# Altium integrated library Lattice ORCA Series 2.IntLib: 202 symbols (part 11 of 22)
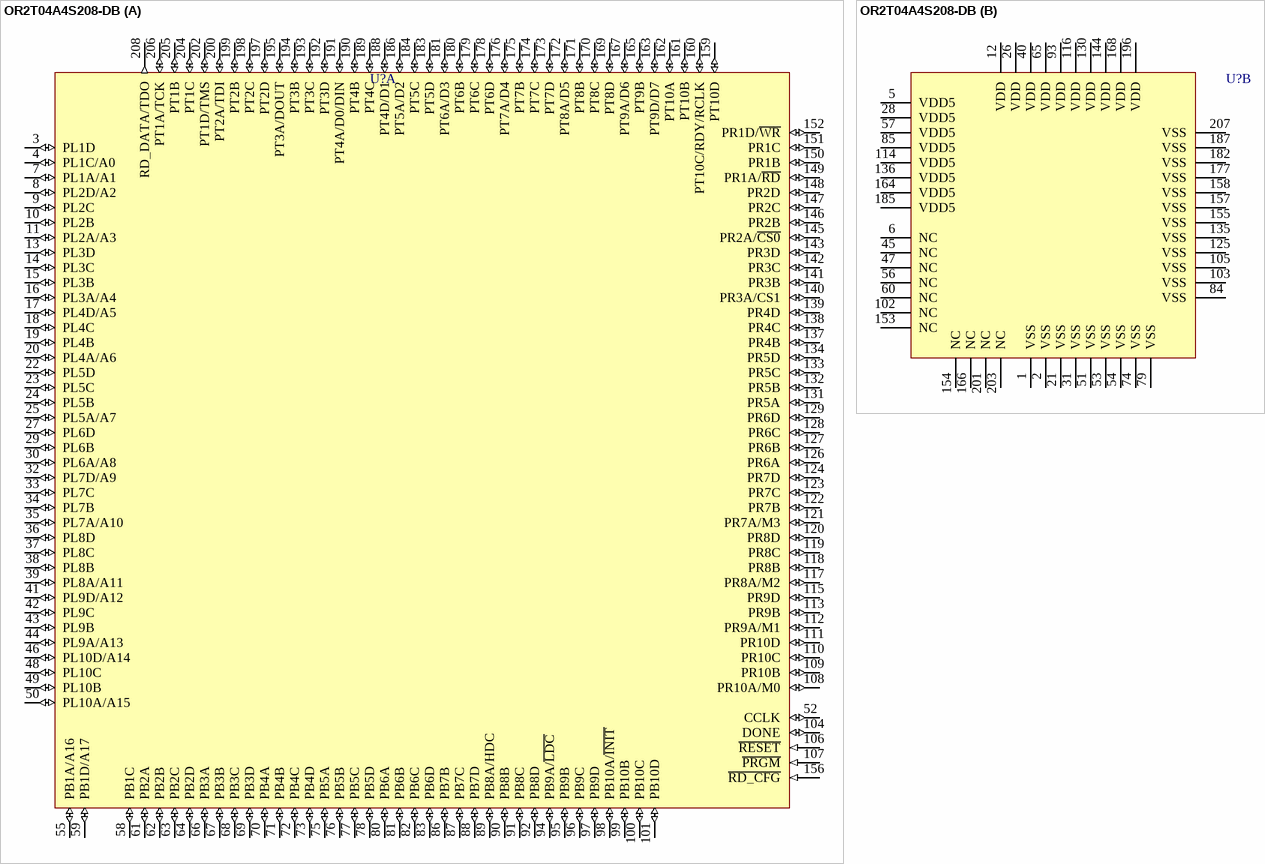
[diagram p202: symbol OR2T04A4S208-DB]

## OR2T04A4S208-DB
designator U?
ORCA Series 2C FPGA: 3.3 V, Commercial Grade, 160 User I/Os.; Published: 21-May-2003; LatestRevisionDate: 13-Apr-2006; LatestRevisionNote: IPC-7351 Footprint Added.; DatasheetVersion: Jan-2003; PackageVersion: pkg_32, Aug-2005; PackageReference: PQFP208; Publisher: Altium Limited; PackageDescription: 208-Pin Plastic Quad Flat Pack (PQFP208); Code_JEDEC: MO-143-FAI; ComponentLink1Description: Manufacturer Link; ComponentLink1URL: http://www.latticesemi.com/products/fpga/orca/orca2/index.cfm; ComponentLink2Description: Datasheet; ComponentLink2URL: http://www.latticesemi.com/lit/docs/datasheets/fpga/ds99-094fpga.pdf; ComponentLink3Description: Lattice Login; ComponentLink3URL: http://www.latticesemi.com/account/login.cfm
footprint PQFP208_N (Shrink QFP, 208-Leads, Body 28x28mm, Pitch 0.5mm, IPC Medium Density)
footprint PQFP208_L (Shrink QFP, 208-Leads, Body 28x28mm, Pitch 0.5mm, IPC High Density)
footprint PQFP208_M (Shrink QFP, 208-Leads, Body 28x28mm, Pitch 0.5mm, IPC Low Density)
3D model OR2T04A-PQFP208 (208-Pin Plastic Quad Flat Pack (PQFP208))
part A pins: 3 PL1D (io), 4 PL1C/A0 (io), 7 PL1A/A1 (io), 8 PL2D/A2 (io), 9 PL2C (io), 10 PL2B (io), 11 PL2A/A3 (io), 13 PL3D (io), 14 PL3C (io), 15 PL3B (io), 16 PL3A/A4 (io), 17 PL4D/A5 (io), 18 PL4C (io), 19 PL4B (io), 20 PL4A/A6 (io), 22 PL5D (io), 23 PL5C (io), 24 PL5B (io), 25 PL5A/A7 (io), 27 PL6D (io), 29 PL6B (io), 30 PL6A/A8 (io), 32 PL7D/A9 (io), 33 PL7C (io), 34 PL7B (io), 35 PL7A/A10 (io), 36 PL8D (io), 37 PL8C (io), 38 PL8B (io), 39 PL8A/A11 (io), 41 PL9D/A12 (io), 42 PL9C (io), 43 PL9B (io), 44 PL9A/A13 (io), 46 PL10D/A14 (io), 48 PL10C (io), 49 PL10B (io), 50 PL10A/A15 (io), 52 CCLK (io), 55 PB1A/A16 (io), 58 PB1C (io), 59 PB1D/A17 (io), 61 PB2A (io), 62 PB2B (io), 63 PB2C (io), 64 PB2D (io), 66 PB3A (io), 67 PB3B (io), 68 PB3C (io), 69 PB3D (io), 70 PB4A (io), 71 PB4B (io), 72 PB4C (io), 73 PB4D (io), 75 PB5A (io), 76 PB5B (io), 77 PB5C (io), 78 PB5D (io), 80 PB6A (io), 81 PB6B (io), 82 PB6C (io), 83 PB6D (io), 86 PB7B (io), 87 PB7C (io), 88 PB7D (io), 89 PB8A/HDC (io), 90 PB8B (io), 91 PB8C (io), 92 PB8D (io), 94 PB9A/~{LDC} (io), 95 PB9B (io), 96 PB9C (io), 97 PB9D (io), 98 PB10A/~{INIT} (io), 99 PB10B (io), 100 PB10C (io), 101 PB10D (io), 104 DONE (io), 106 ~{RESET} (in), 107 ~{PRGM} (in), 108 PR10A/M0 (io), 109 PR10B (io), 110 PR10C (io), 111 PR10D (io), 112 PR9A/M1 (io), 113 PR9B (io), 115 PR9D (io), 117 PR8A/M2 (io), 118 PR8B (io), 119 PR8C (io), 120 PR8D (io), 121 PR7A/M3 (io), 122 PR7B (io), 123 PR7C (io), 124 PR7D (io), 126 PR6A (io), 127 PR6B (io), 128 PR6C (io), 129 PR6D (io), 131 PR5A (io), 132 PR5B (io), 133 PR5C (io), 134 PR5D (io), 137 PR4B (io), 138 PR4C (io), 139 PR4D (io), 140 PR3A/CS1 (io), 141 PR3B (io), 142 PR3C (io), 143 PR3D (io), 145 PR2A/~{CS0} (io), 146 PR2B (io), 147 PR2C (io), 148 PR2D (io), 149 PR1A/~{RD} (io), 150 PR1B (io), 151 PR1C (io), 152 PR1D/~{WR} (io), 156 ~{RD_CFG} (in), 159 PT10D (io), 160 PT10C/RDY/RCLK (io), 161 PT10B (io), 162 PT10A (io), 163 PT9D/D7 (io), 165 PT9B (io), 167 PT9A/D6 (io), 169 PT8D (io), 170 PT8C (io), 171 PT8B (io), 172 PT8A/D5 (io), 173 PT7D (io), 174 PT7C (io), 175 PT7B (io), 176 PT7A/D4 (io), 178 PT6D (io), 179 PT6C (io), 180 PT6B (io), 181 PT6A/D3 (io), 183 PT5D (io), 184 PT5C (io), 186 PT5A/D2 (io), 188 PT4D/D1 (io), 189 PT4C (io), 190 PT4B (io), 191 PT4A/D0/DIN (io), 192 PT3D (io), 193 PT3C (io), 194 PT3B (io), 195 PT3A/DOUT (io), 197 PT2D (io), 198 PT2C (io), 199 PT2B (io), 200 PT2A/TDI (io), 202 PT1D/TMS (io), 204 PT1C (io), 205 PT1B (io), 206 PT1A/TCK (io), 208 RD_DATA/TDO (out)
part B pins: 1 VSS (power), 2 VSS (power), 5 VDD5 (power), 6 NC, 12 VDD (power), 21 VSS (power), 26 VDD (power), 28 VDD5 (power), 31 VSS (power), 40 VDD (power), 45 NC, 47 NC, 51 VSS (power), 53 VSS (power), 54 VSS (power), 56 NC, 57 VDD5 (power), 60 NC, 65 VDD (power), 74 VSS (power), 79 VSS (power), 84 VSS (power), 85 VDD5 (power), 93 VDD (power), 102 NC, 103 VSS (power), 105 VSS (power), 114 VDD5 (power), 116 VDD (power), 125 VSS (power), 130 VDD (power), 135 VSS (power), 136 VDD5 (power), 144 VDD (power), 153 NC, 154 NC, 155 VSS (power), 157 VSS (power), 158 VSS (power), 164 VDD5 (power), 166 NC, 168 VDD (power), 177 VSS (power), 182 VSS (power), 185 VDD5 (power), 187 VSS (power), 196 VDD (power), 201 NC, 203 NC, 207 VSS (power)

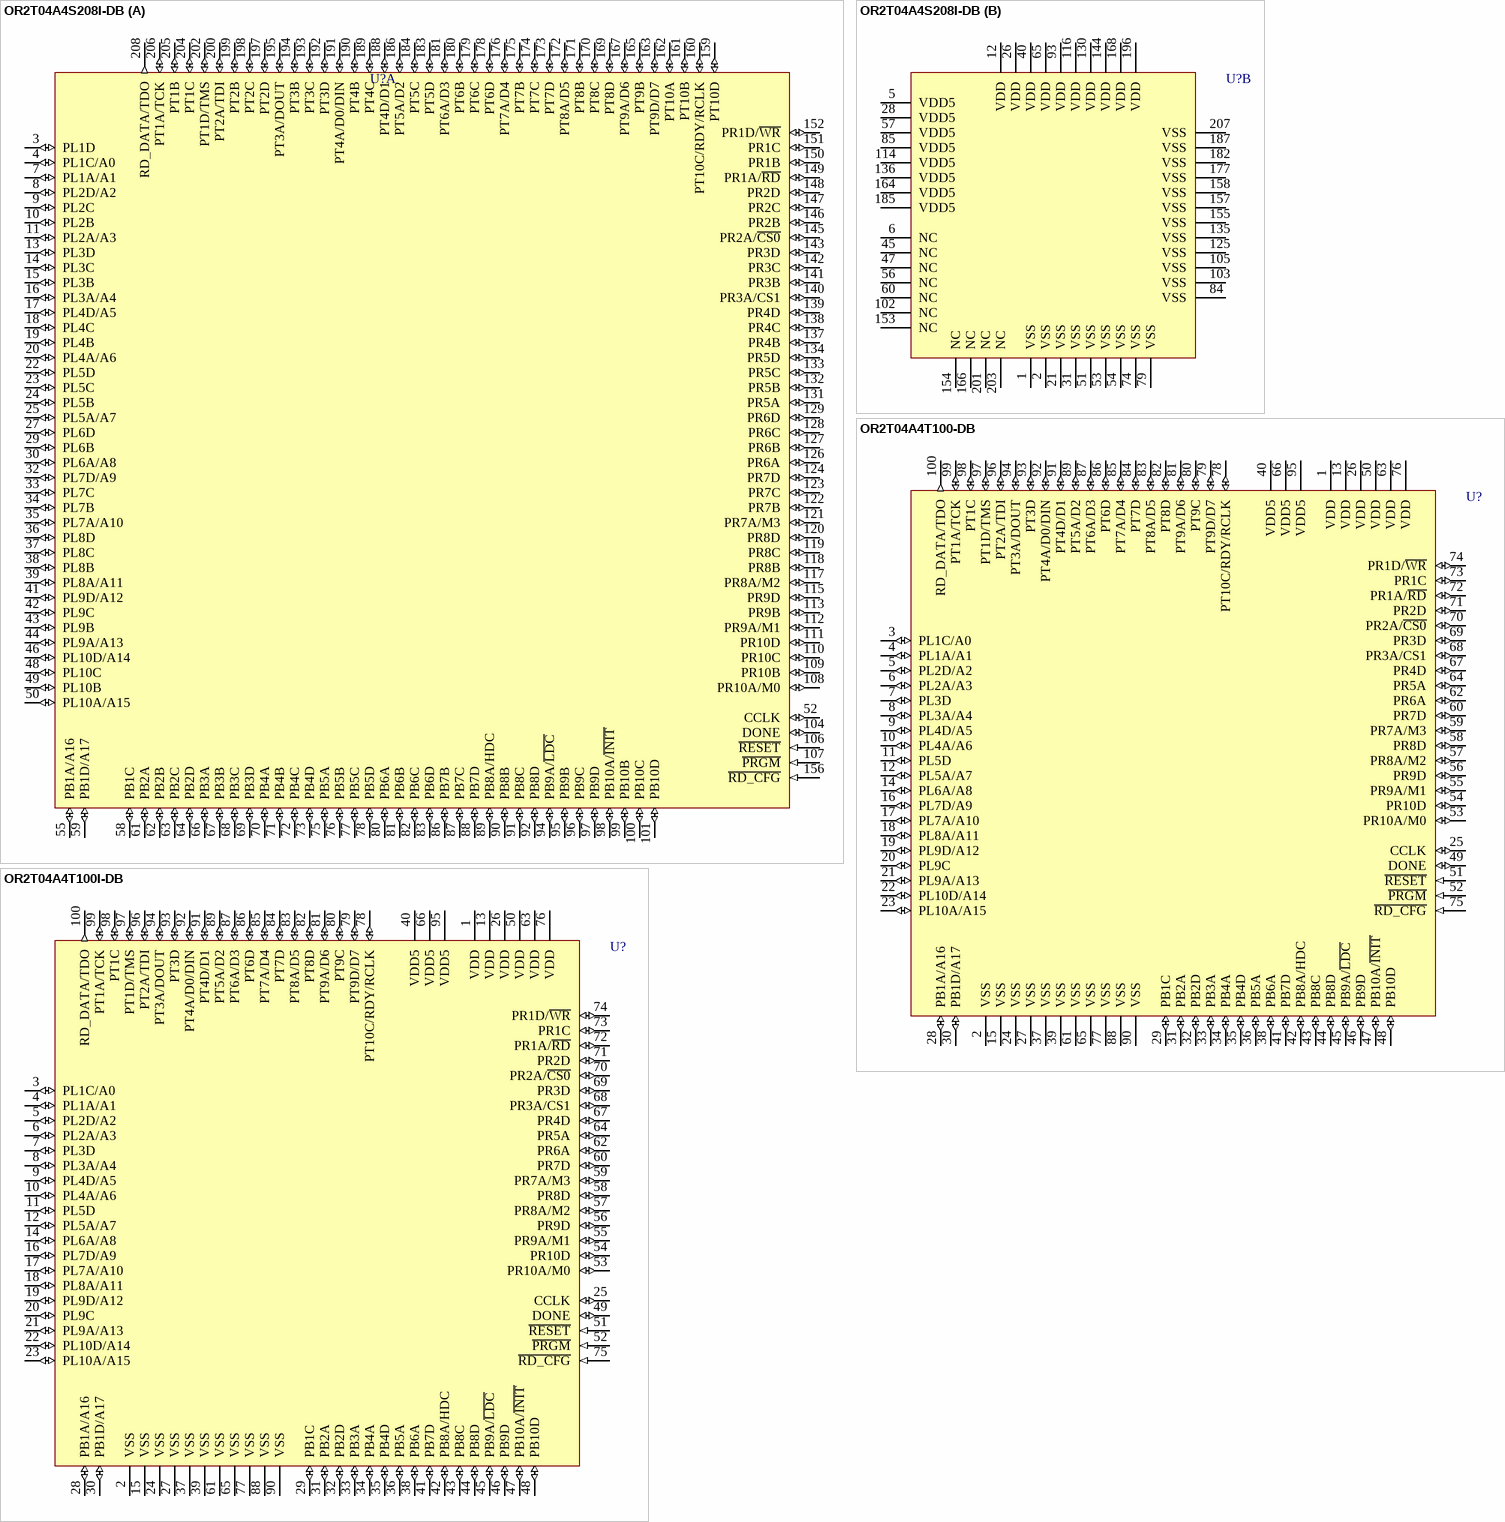
[diagram p83: symbols OR2T04A4S208I-DB to OR2T04A4T100I-DB]

## OR2T04A4S208I-DB
designator U?
ORCA Series 2C FPGA: 3.3 V, Industrial Grade, 160 User I/Os.; Published: 21-May-2003; LatestRevisionDate: 13-Apr-2006; LatestRevisionNote: IPC-7351 Footprint Added.; DatasheetVersion: Jan-2003; PackageVersion: pkg_32, Aug-2005; PackageReference: PQFP208; Publisher: Altium Limited; PackageDescription: 208-Pin Plastic Quad Flat Pack (PQFP208); Code_JEDEC: MO-143-FAI; ComponentLink1Description: Manufacturer Link; ComponentLink1URL: http://www.latticesemi.com/products/fpga/orca/orca2/index.cfm; ComponentLink2Description: Datasheet; ComponentLink2URL: http://www.latticesemi.com/lit/docs/datasheets/fpga/ds99-094fpga.pdf; ComponentLink3Description: Lattice Login; ComponentLink3URL: http://www.latticesemi.com/account/login.cfm
footprint PQFP208_N (Shrink QFP, 208-Leads, Body 28x28mm, Pitch 0.5mm, IPC Medium Density)
footprint PQFP208_L (Shrink QFP, 208-Leads, Body 28x28mm, Pitch 0.5mm, IPC High Density)
footprint PQFP208_M (Shrink QFP, 208-Leads, Body 28x28mm, Pitch 0.5mm, IPC Low Density)
3D model OR2T04A-PQFP208 (208-Pin Plastic Quad Flat Pack (PQFP208))
part A pins: 3 PL1D (io), 4 PL1C/A0 (io), 7 PL1A/A1 (io), 8 PL2D/A2 (io), 9 PL2C (io), 10 PL2B (io), 11 PL2A/A3 (io), 13 PL3D (io), 14 PL3C (io), 15 PL3B (io), 16 PL3A/A4 (io), 17 PL4D/A5 (io), 18 PL4C (io), 19 PL4B (io), 20 PL4A/A6 (io), 22 PL5D (io), 23 PL5C (io), 24 PL5B (io), 25 PL5A/A7 (io), 27 PL6D (io), 29 PL6B (io), 30 PL6A/A8 (io), 32 PL7D/A9 (io), 33 PL7C (io), 34 PL7B (io), 35 PL7A/A10 (io), 36 PL8D (io), 37 PL8C (io), 38 PL8B (io), 39 PL8A/A11 (io), 41 PL9D/A12 (io), 42 PL9C (io), 43 PL9B (io), 44 PL9A/A13 (io), 46 PL10D/A14 (io), 48 PL10C (io), 49 PL10B (io), 50 PL10A/A15 (io), 52 CCLK (io), 55 PB1A/A16 (io), 58 PB1C (io), 59 PB1D/A17 (io), 61 PB2A (io), 62 PB2B (io), 63 PB2C (io), 64 PB2D (io), 66 PB3A (io), 67 PB3B (io), 68 PB3C (io), 69 PB3D (io), 70 PB4A (io), 71 PB4B (io), 72 PB4C (io), 73 PB4D (io), 75 PB5A (io), 76 PB5B (io), 77 PB5C (io), 78 PB5D (io), 80 PB6A (io), 81 PB6B (io), 82 PB6C (io), 83 PB6D (io), 86 PB7B (io), 87 PB7C (io), 88 PB7D (io), 89 PB8A/HDC (io), 90 PB8B (io), 91 PB8C (io), 92 PB8D (io), 94 PB9A/~{LDC} (io), 95 PB9B (io), 96 PB9C (io), 97 PB9D (io), 98 PB10A/~{INIT} (io), 99 PB10B (io), 100 PB10C (io), 101 PB10D (io), 104 DONE (io), 106 ~{RESET} (in), 107 ~{PRGM} (in), 108 PR10A/M0 (io), 109 PR10B (io), 110 PR10C (io), 111 PR10D (io), 112 PR9A/M1 (io), 113 PR9B (io), 115 PR9D (io), 117 PR8A/M2 (io), 118 PR8B (io), 119 PR8C (io), 120 PR8D (io), 121 PR7A/M3 (io), 122 PR7B (io), 123 PR7C (io), 124 PR7D (io), 126 PR6A (io), 127 PR6B (io), 128 PR6C (io), 129 PR6D (io), 131 PR5A (io), 132 PR5B (io), 133 PR5C (io), 134 PR5D (io), 137 PR4B (io), 138 PR4C (io), 139 PR4D (io), 140 PR3A/CS1 (io), 141 PR3B (io), 142 PR3C (io), 143 PR3D (io), 145 PR2A/~{CS0} (io), 146 PR2B (io), 147 PR2C (io), 148 PR2D (io), 149 PR1A/~{RD} (io), 150 PR1B (io), 151 PR1C (io), 152 PR1D/~{WR} (io), 156 ~{RD_CFG} (in), 159 PT10D (io), 160 PT10C/RDY/RCLK (io), 161 PT10B (io), 162 PT10A (io), 163 PT9D/D7 (io), 165 PT9B (io), 167 PT9A/D6 (io), 169 PT8D (io), 170 PT8C (io), 171 PT8B (io), 172 PT8A/D5 (io), 173 PT7D (io), 174 PT7C (io), 175 PT7B (io), 176 PT7A/D4 (io), 178 PT6D (io), 179 PT6C (io), 180 PT6B (io), 181 PT6A/D3 (io), 183 PT5D (io), 184 PT5C (io), 186 PT5A/D2 (io), 188 PT4D/D1 (io), 189 PT4C (io), 190 PT4B (io), 191 PT4A/D0/DIN (io), 192 PT3D (io), 193 PT3C (io), 194 PT3B (io), 195 PT3A/DOUT (io), 197 PT2D (io), 198 PT2C (io), 199 PT2B (io), 200 PT2A/TDI (io), 202 PT1D/TMS (io), 204 PT1C (io), 205 PT1B (io), 206 PT1A/TCK (io), 208 RD_DATA/TDO (out)
part B pins: 1 VSS (power), 2 VSS (power), 5 VDD5 (power), 6 NC, 12 VDD (power), 21 VSS (power), 26 VDD (power), 28 VDD5 (power), 31 VSS (power), 40 VDD (power), 45 NC, 47 NC, 51 VSS (power), 53 VSS (power), 54 VSS (power), 56 NC, 57 VDD5 (power), 60 NC, 65 VDD (power), 74 VSS (power), 79 VSS (power), 84 VSS (power), 85 VDD5 (power), 93 VDD (power), 102 NC, 103 VSS (power), 105 VSS (power), 114 VDD5 (power), 116 VDD (power), 125 VSS (power), 130 VDD (power), 135 VSS (power), 136 VDD5 (power), 144 VDD (power), 153 NC, 154 NC, 155 VSS (power), 157 VSS (power), 158 VSS (power), 164 VDD5 (power), 166 NC, 168 VDD (power), 177 VSS (power), 182 VSS (power), 185 VDD5 (power), 187 VSS (power), 196 VDD (power), 201 NC, 203 NC, 207 VSS (power)

## OR2T04A4T100-DB
designator U?
ORCA Series 2C FPGA: 3.3 V, Commercial Grade, 160 User I/Os.; Published: 21-May-2003; LatestRevisionDate: 13-Apr-2006; LatestRevisionNote: IPC-7351 Footprint Added.; DatasheetVersion: Jan-2003; PackageVersion: pkg_32, Aug-2005; PackageReference: TQFP100; Publisher: Altium Limited; PackageDescription: 100-Pin Thin Quad Flat Pack (TQFP100); Code_JEDEC: MS-026-BED; ComponentLink1Description: Manufacturer Link; ComponentLink1URL: http://www.latticesemi.com/products/fpga/orca/orca2/index.cfm; ComponentLink2Description: Datasheet; ComponentLink2URL: http://www.latticesemi.com/lit/docs/datasheets/fpga/ds99-094fpga.pdf; ComponentLink3Description: Lattice Login; ComponentLink3URL: http://www.latticesemi.com/account/login.cfm
footprint TQFP100_N (Thin QFP, 100-Leads, Body 14x14mm, Pitch 0.5mm, IPC Medium Density)
footprint TQFP100_L (Thin QFP, 100-Leads, Body 14x14mm, Pitch 0.5mm, IPC High Density)
footprint TQFP100_M (Thin QFP, 100-Leads, Body 14x14mm, Pitch 0.5mm, IPC Low Density)
3D model OR2T04A-TQFP100 (100-Pin Thin Quad Flat Pack (TQFP100))
pins: 1 VDD (power), 2 VSS (power), 3 PL1C/A0 (io), 4 PL1A/A1 (io), 5 PL2D/A2 (io), 6 PL2A/A3 (io), 7 PL3D (io), 8 PL3A/A4 (io), 9 PL4D/A5 (io), 10 PL4A/A6 (io), 11 PL5D (io), 12 PL5A/A7 (io), 13 VDD (power), 14 PL6A/A8 (io), 15 VSS (power), 16 PL7D/A9 (io), 17 PL7A/A10 (io), 18 PL8A/A11 (io), 19 PL9D/A12 (io), 20 PL9C (io), 21 PL9A/A13 (io), 22 PL10D/A14 (io), 23 PL10A/A15 (io), 24 VSS (power), 25 CCLK (io), 26 VDD (power), 27 VSS (power), 28 PB1A/A16 (io), 29 PB1C (io), 30 PB1D/A17 (io), 31 PB2A (io), 32 PB2D (io), 33 PB3A (io), 34 PB4A (io), 35 PB4D (io), 36 PB5A (io), 37 VSS (power), 38 PB6A (io), 39 VSS (power), 40 VDD5 (power), 41 PB7D (io), 42 PB8A/HDC (io), 43 PB8C (io), 44 PB8D (io), 45 PB9A/~{LDC} (io), 46 PB9D (io), 47 PB10A/~{INIT} (io), 48 PB10D (io), 49 DONE (io), 50 VDD (power), 51 ~{RESET} (in), 52 ~{PRGM} (in), 53 PR10A/M0 (io), 54 PR10D (io), 55 PR9A/M1 (io), 56 PR9D (io), 57 PR8A/M2 (io), 58 PR8D (io), 59 PR7A/M3 (io), 60 PR7D (io), 61 VSS (power), 62 PR6A (io), 63 VDD (power), 64 PR5A (io), 65 VSS (power), 66 VDD5 (power), 67 PR4D (io), 68 PR3A/CS1 (io), 69 PR3D (io), 70 PR2A/~{CS0} (io), 71 PR2D (io), 72 PR1A/~{RD} (io), 73 PR1C (io), 74 PR1D/~{WR} (io), 75 ~{RD_CFG} (in), 76 VDD (power), 77 VSS (power), 78 PT10C/RDY/RCLK (io), 79 PT9D/D7 (io), 80 PT9C (io), 81 PT9A/D6 (io), 82 PT8D (io), 83 PT8A/D5 (io), 84 PT7D (io), 85 PT7A/D4 (io), 86 PT6D (io), 87 PT6A/D3 (io), 88 VSS (power), 89 PT5A/D2 (io), 90 VSS (power), 91 PT4D/D1 (io), 92 PT4A/D0/DIN (io), 93 PT3D (io), 94 PT3A/DOUT (io), 95 VDD5 (power), 96 PT2A/TDI (io), 97 PT1D/TMS (io), 98 PT1C (io), 99 PT1A/TCK (io), 100 RD_DATA/TDO (out)

## OR2T04A4T100I-DB
designator U?
ORCA Series 2C FPGA: 3.3 V, Industrial Grade, 160 User I/Os.; Published: 21-May-2003; LatestRevisionDate: 13-Apr-2006; LatestRevisionNote: IPC-7351 Footprint Added.; DatasheetVersion: Jan-2003; PackageVersion: pkg_32, Aug-2005; PackageReference: TQFP100; Publisher: Altium Limited; PackageDescription: 100-Pin Thin Quad Flat Pack (TQFP100); Code_JEDEC: MS-026-BED; ComponentLink1Description: Manufacturer Link; ComponentLink1URL: http://www.latticesemi.com/products/fpga/orca/orca2/index.cfm; ComponentLink2Description: Datasheet; ComponentLink2URL: http://www.latticesemi.com/lit/docs/datasheets/fpga/ds99-094fpga.pdf; ComponentLink3Description: Lattice Login; ComponentLink3URL: http://www.latticesemi.com/account/login.cfm
footprint TQFP100_N (Thin QFP, 100-Leads, Body 14x14mm, Pitch 0.5mm, IPC Medium Density)
footprint TQFP100_L (Thin QFP, 100-Leads, Body 14x14mm, Pitch 0.5mm, IPC High Density)
footprint TQFP100_M (Thin QFP, 100-Leads, Body 14x14mm, Pitch 0.5mm, IPC Low Density)
3D model OR2T04A-TQFP100 (100-Pin Thin Quad Flat Pack (TQFP100))
pins: 1 VDD (power), 2 VSS (power), 3 PL1C/A0 (io), 4 PL1A/A1 (io), 5 PL2D/A2 (io), 6 PL2A/A3 (io), 7 PL3D (io), 8 PL3A/A4 (io), 9 PL4D/A5 (io), 10 PL4A/A6 (io), 11 PL5D (io), 12 PL5A/A7 (io), 13 VDD (power), 14 PL6A/A8 (io), 15 VSS (power), 16 PL7D/A9 (io), 17 PL7A/A10 (io), 18 PL8A/A11 (io), 19 PL9D/A12 (io), 20 PL9C (io), 21 PL9A/A13 (io), 22 PL10D/A14 (io), 23 PL10A/A15 (io), 24 VSS (power), 25 CCLK (io), 26 VDD (power), 27 VSS (power), 28 PB1A/A16 (io), 29 PB1C (io), 30 PB1D/A17 (io), 31 PB2A (io), 32 PB2D (io), 33 PB3A (io), 34 PB4A (io), 35 PB4D (io), 36 PB5A (io), 37 VSS (power), 38 PB6A (io), 39 VSS (power), 40 VDD5 (power), 41 PB7D (io), 42 PB8A/HDC (io), 43 PB8C (io), 44 PB8D (io), 45 PB9A/~{LDC} (io), 46 PB9D (io), 47 PB10A/~{INIT} (io), 48 PB10D (io), 49 DONE (io), 50 VDD (power), 51 ~{RESET} (in), 52 ~{PRGM} (in), 53 PR10A/M0 (io), 54 PR10D (io), 55 PR9A/M1 (io), 56 PR9D (io), 57 PR8A/M2 (io), 58 PR8D (io), 59 PR7A/M3 (io), 60 PR7D (io), 61 VSS (power), 62 PR6A (io), 63 VDD (power), 64 PR5A (io), 65 VSS (power), 66 VDD5 (power), 67 PR4D (io), 68 PR3A/CS1 (io), 69 PR3D (io), 70 PR2A/~{CS0} (io), 71 PR2D (io), 72 PR1A/~{RD} (io), 73 PR1C (io), 74 PR1D/~{WR} (io), 75 ~{RD_CFG} (in), 76 VDD (power), 77 VSS (power), 78 PT10C/RDY/RCLK (io), 79 PT9D/D7 (io), 80 PT9C (io), 81 PT9A/D6 (io), 82 PT8D (io), 83 PT8A/D5 (io), 84 PT7D (io), 85 PT7A/D4 (io), 86 PT6D (io), 87 PT6A/D3 (io), 88 VSS (power), 89 PT5A/D2 (io), 90 VSS (power), 91 PT4D/D1 (io), 92 PT4A/D0/DIN (io), 93 PT3D (io), 94 PT3A/DOUT (io), 95 VDD5 (power), 96 PT2A/TDI (io), 97 PT1D/TMS (io), 98 PT1C (io), 99 PT1A/TCK (io), 100 RD_DATA/TDO (out)

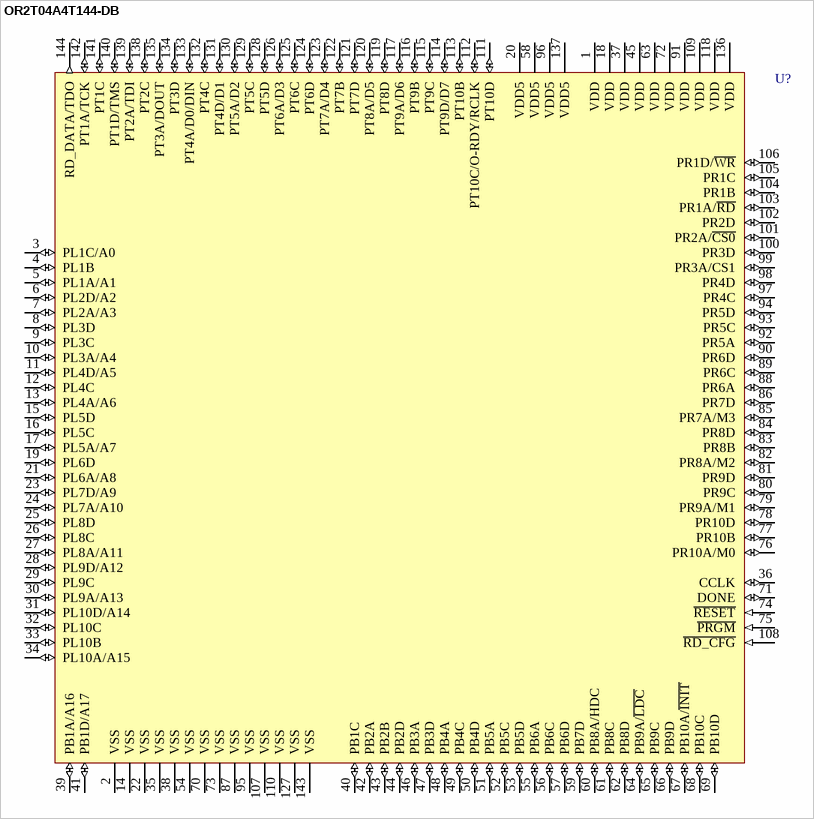
[diagram p84: symbol OR2T04A4T144-DB]

## OR2T04A4T144-DB
designator U?
ORCA Series 2C FPGA: 3.3 V, Commercial Grade, 160 User I/Os.; Published: 21-May-2003; LatestRevisionDate: 13-Apr-2006; LatestRevisionNote: IPC-7351 Footprint Added.; DatasheetVersion: Jan-2003; PackageVersion: pkg_32, Aug-2005; PackageReference: TQFP144; Publisher: Altium Limited; PackageDescription: 144-Pin Thin Quad Flat Pack (TQFP144); Code_JEDEC: MS-026-BFB; ComponentLink1Description: Manufacturer Link; ComponentLink1URL: http://www.latticesemi.com/products/fpga/orca/orca2/index.cfm; ComponentLink2Description: Datasheet; ComponentLink2URL: http://www.latticesemi.com/lit/docs/datasheets/fpga/ds99-094fpga.pdf; ComponentLink3Description: Lattice Login; ComponentLink3URL: http://www.latticesemi.com/account/login.cfm
footprint TQFP144_N (Thin QFP, 144-Leads, Body 20x20mm, Pitch 0.5mm, IPC Medium Density)
footprint TQFP144_L (Thin QFP, 144-Leads, Body 20x20mm, Pitch 0.5mm, IPC High Density)
footprint TQFP144_M (Thin QFP, 144-Leads, Body 20x20mm, Pitch 0.5mm, IPC Low Density)
3D model OR2T04A-TQFP144 (144-Pin Thin Quad Flat Pack (TQFP144))
pins: 1 VDD (power), 2 VSS (power), 3 PL1C/A0 (io), 4 PL1B (io), 5 PL1A/A1 (io), 6 PL2D/A2 (io), 7 PL2A/A3 (io), 8 PL3D (io), 9 PL3C (io), 10 PL3A/A4 (io), 11 PL4D/A5 (io), 12 PL4C (io), 13 PL4A/A6 (io), 14 VSS (power), 15 PL5D (io), 16 PL5C (io), 17 PL5A/A7 (io), 18 VDD (power), 19 PL6D (io), 20 VDD5 (power), 21 PL6A/A8 (io), 22 VSS (power), 23 PL7D/A9 (io), 24 PL7A/A10 (io), 25 PL8D (io), 26 PL8C (io), 27 PL8A/A11 (io), 28 PL9D/A12 (io), 29 PL9C (io), 30 PL9A/A13 (io), 31 PL10D/A14 (io), 32 PL10C (io), 33 PL10B (io), 34 PL10A/A15 (io), 35 VSS (power), 36 CCLK (io), 37 VDD (power), 38 VSS (power), 39 PB1A/A16 (io), 40 PB1C (io), 41 PB1D/A17 (io), 42 PB2A (io), 43 PB2B (io), 44 PB2D (io), 45 VDD (power), 46 PB3A (io), 47 PB3D (io), 48 PB4A (io), 49 PB4C (io), 50 PB4D (io), 51 PB5A (io), 52 PB5C (io), 53 PB5D (io), 54 VSS (power), 55 PB6A (io), 56 PB6C (io), 57 PB6D (io), 58 VDD5 (power), 59 PB7D (io), 60 PB8A/HDC (io), 61 PB8C (io), 62 PB8D (io), 63 VDD (power), 64 PB9A/~{LDC} (io), 65 PB9C (io), 66 PB9D (io), 67 PB10A/~{INIT} (io), 68 PB10C (io), 69 PB10D (io), 70 VSS (power), 71 DONE (io), 72 VDD (power), 73 VSS (power), 74 ~{RESET} (in), 75 ~{PRGM} (in), 76 PR10A/M0 (io), 77 PR10B (io), 78 PR10D (io), 79 PR9A/M1 (io), 80 PR9C (io), 81 PR9D (io), 82 PR8A/M2 (io), 83 PR8B (io), 84 PR8D (io), 85 PR7A/M3 (io), 86 PR7D (io), 87 VSS (power), 88 PR6A (io), 89 PR6C (io), 90 PR6D (io), 91 VDD (power), 92 PR5A (io), 93 PR5C (io), 94 PR5D (io), 95 VSS (power), 96 VDD5 (power), 97 PR4C (io), 98 PR4D (io), 99 PR3A/CS1 (io), 100 PR3D (io), 101 PR2A/~{CS0} (io), 102 PR2D (io), 103 PR1A/~{RD} (io), 104 PR1B (io), 105 PR1C (io), 106 PR1D/~{WR} (io), 107 VSS (power), 108 ~{RD_CFG} (in), 109 VDD (power), 110 VSS (power), 111 PT10D (io), 112 PT10C/O-RDY/RCLK (io), 113 PT10B (io), 114 PT9D/D7 (io), 115 PT9C (io), 116 PT9B (io), 117 PT9A/D6 (io), 118 VDD (power), 119 PT8D (io), 120 PT8A/D5 (io), 121 PT7D (io), 122 PT7B (io), 123 PT7A/D4 (io), 124 PT6D (io), 125 PT6C (io), 126 PT6A/D3 (io), 127 VSS (power), 128 PT5D (io), 129 PT5C (io), 130 PT5A/D2 (io), 131 PT4D/D1 (io), 132 PT4C (io), 133 PT4A/D0/DIN (io), 134 PT3D (io), 135 PT3A/DOUT (io), 136 VDD (power), 137 VDD5 (power), 138 PT2C (io), 139 PT2A/TDI (io), 140 PT1D/TMS (io), 141 PT1C (io), 142 PT1A/TCK (io), 143 VSS (power), 144 RD_DATA/TDO (out)

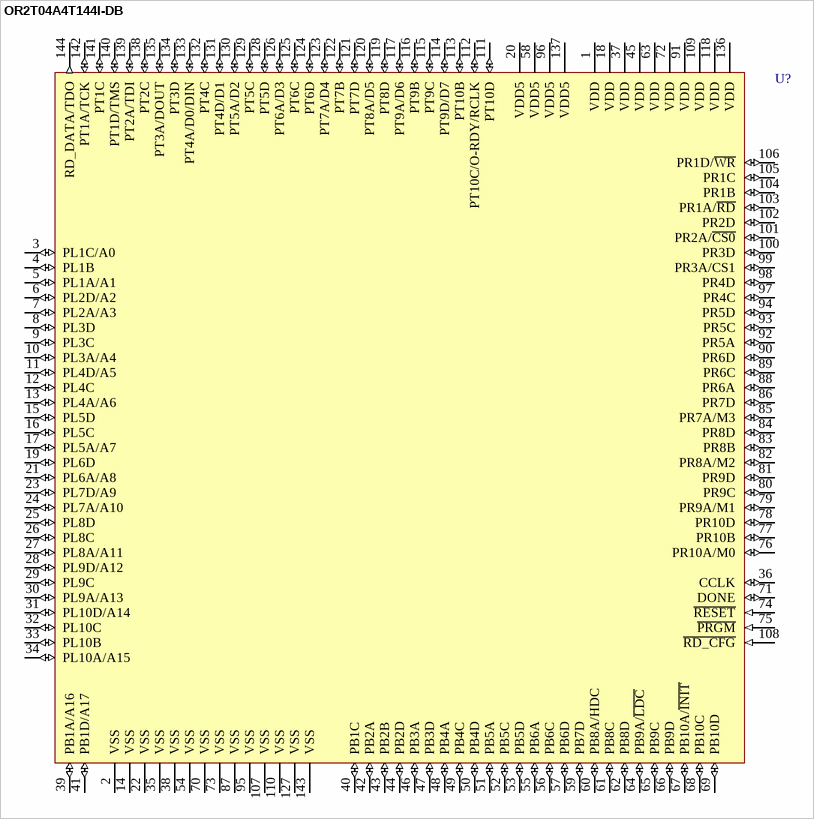
[diagram p85: symbol OR2T04A4T144I-DB]

## OR2T04A4T144I-DB
designator U?
ORCA Series 2C FPGA: 3.3 V, Industrial Grade, 160 User I/Os.; Published: 21-May-2003; LatestRevisionDate: 13-Apr-2006; LatestRevisionNote: IPC-7351 Footprint Added.; DatasheetVersion: Jan-2003; PackageVersion: pkg_32, Aug-2005; PackageReference: TQFP144; Publisher: Altium Limited; PackageDescription: 144-Pin Thin Quad Flat Pack (TQFP144); Code_JEDEC: MS-026-BFB; ComponentLink1Description: Manufacturer Link; ComponentLink1URL: http://www.latticesemi.com/products/fpga/orca/orca2/index.cfm; ComponentLink2Description: Datasheet; ComponentLink2URL: http://www.latticesemi.com/lit/docs/datasheets/fpga/ds99-094fpga.pdf; ComponentLink3Description: Lattice Login; ComponentLink3URL: http://www.latticesemi.com/account/login.cfm
footprint TQFP144_N (Thin QFP, 144-Leads, Body 20x20mm, Pitch 0.5mm, IPC Medium Density)
footprint TQFP144_L (Thin QFP, 144-Leads, Body 20x20mm, Pitch 0.5mm, IPC High Density)
footprint TQFP144_M (Thin QFP, 144-Leads, Body 20x20mm, Pitch 0.5mm, IPC Low Density)
3D model OR2T04A-TQFP144 (144-Pin Thin Quad Flat Pack (TQFP144))
pins: 1 VDD (power), 2 VSS (power), 3 PL1C/A0 (io), 4 PL1B (io), 5 PL1A/A1 (io), 6 PL2D/A2 (io), 7 PL2A/A3 (io), 8 PL3D (io), 9 PL3C (io), 10 PL3A/A4 (io), 11 PL4D/A5 (io), 12 PL4C (io), 13 PL4A/A6 (io), 14 VSS (power), 15 PL5D (io), 16 PL5C (io), 17 PL5A/A7 (io), 18 VDD (power), 19 PL6D (io), 20 VDD5 (power), 21 PL6A/A8 (io), 22 VSS (power), 23 PL7D/A9 (io), 24 PL7A/A10 (io), 25 PL8D (io), 26 PL8C (io), 27 PL8A/A11 (io), 28 PL9D/A12 (io), 29 PL9C (io), 30 PL9A/A13 (io), 31 PL10D/A14 (io), 32 PL10C (io), 33 PL10B (io), 34 PL10A/A15 (io), 35 VSS (power), 36 CCLK (io), 37 VDD (power), 38 VSS (power), 39 PB1A/A16 (io), 40 PB1C (io), 41 PB1D/A17 (io), 42 PB2A (io), 43 PB2B (io), 44 PB2D (io), 45 VDD (power), 46 PB3A (io), 47 PB3D (io), 48 PB4A (io), 49 PB4C (io), 50 PB4D (io), 51 PB5A (io), 52 PB5C (io), 53 PB5D (io), 54 VSS (power), 55 PB6A (io), 56 PB6C (io), 57 PB6D (io), 58 VDD5 (power), 59 PB7D (io), 60 PB8A/HDC (io), 61 PB8C (io), 62 PB8D (io), 63 VDD (power), 64 PB9A/~{LDC} (io), 65 PB9C (io), 66 PB9D (io), 67 PB10A/~{INIT} (io), 68 PB10C (io), 69 PB10D (io), 70 VSS (power), 71 DONE (io), 72 VDD (power), 73 VSS (power), 74 ~{RESET} (in), 75 ~{PRGM} (in), 76 PR10A/M0 (io), 77 PR10B (io), 78 PR10D (io), 79 PR9A/M1 (io), 80 PR9C (io), 81 PR9D (io), 82 PR8A/M2 (io), 83 PR8B (io), 84 PR8D (io), 85 PR7A/M3 (io), 86 PR7D (io), 87 VSS (power), 88 PR6A (io), 89 PR6C (io), 90 PR6D (io), 91 VDD (power), 92 PR5A (io), 93 PR5C (io), 94 PR5D (io), 95 VSS (power), 96 VDD5 (power), 97 PR4C (io), 98 PR4D (io), 99 PR3A/CS1 (io), 100 PR3D (io), 101 PR2A/~{CS0} (io), 102 PR2D (io), 103 PR1A/~{RD} (io), 104 PR1B (io), 105 PR1C (io), 106 PR1D/~{WR} (io), 107 VSS (power), 108 ~{RD_CFG} (in), 109 VDD (power), 110 VSS (power), 111 PT10D (io), 112 PT10C/O-RDY/RCLK (io), 113 PT10B (io), 114 PT9D/D7 (io), 115 PT9C (io), 116 PT9B (io), 117 PT9A/D6 (io), 118 VDD (power), 119 PT8D (io), 120 PT8A/D5 (io), 121 PT7D (io), 122 PT7B (io), 123 PT7A/D4 (io), 124 PT6D (io), 125 PT6C (io), 126 PT6A/D3 (io), 127 VSS (power), 128 PT5D (io), 129 PT5C (io), 130 PT5A/D2 (io), 131 PT4D/D1 (io), 132 PT4C (io), 133 PT4A/D0/DIN (io), 134 PT3D (io), 135 PT3A/DOUT (io), 136 VDD (power), 137 VDD5 (power), 138 PT2C (io), 139 PT2A/TDI (io), 140 PT1D/TMS (io), 141 PT1C (io), 142 PT1A/TCK (io), 143 VSS (power), 144 RD_DATA/TDO (out)

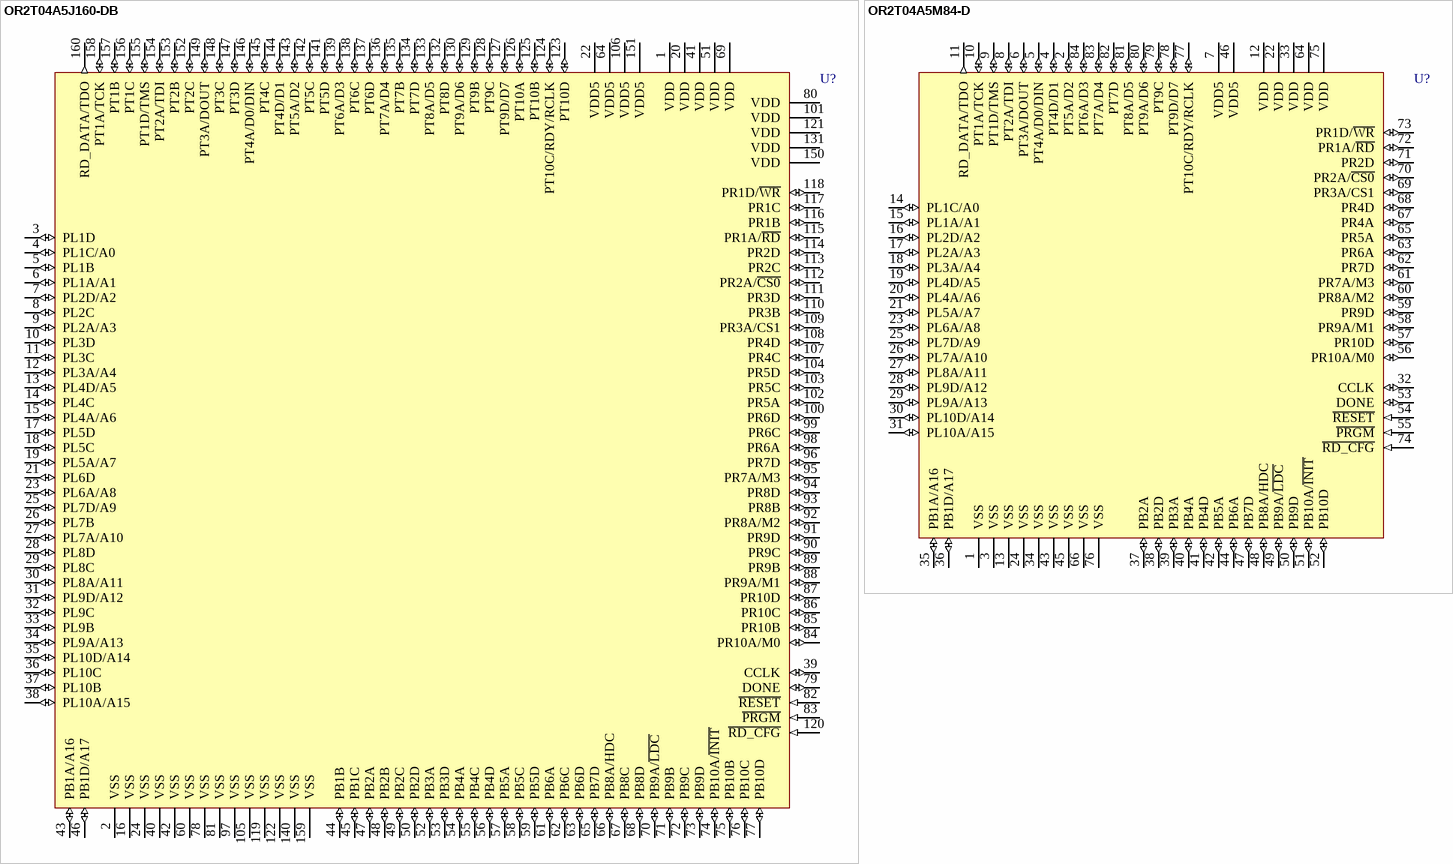
[diagram p86: symbols OR2T04A5J160-DB to OR2T04A5M84-D]

## OR2T04A5J160-DB
designator U?
ORCA Series 2C FPGA: 3.3 V, Commercial Grade, 160 User I/Os.; Published: 21-May-2003; LatestRevisionDate: 13-Apr-2006; LatestRevisionNote: IPC-7351 Footprint Added.; DatasheetVersion: Jan-2003; PackageVersion: pkg_32, Aug-2005; PackageReference: PQFP160; Publisher: Altium Limited; PackageDescription: 160-Pin Quad Flat Pack 0.65 mm Pitch; Code_IPC: QFP65P3120X3120-160; ComponentLink1Description: Manufacturer Link; ComponentLink1URL: http://www.latticesemi.com/products/fpga/orca/orca2/index.cfm; ComponentLink2Description: Datasheet; ComponentLink2URL: http://www.latticesemi.com/lit/docs/datasheets/fpga/ds99-094fpga.pdf; ComponentLink3Description: Lattice Login; ComponentLink3URL: http://www.latticesemi.com/account/login.cfm
footprint PQFP160_N (QFP, 160-Leads, Body 28 x 28mm, Pitch 0.65mm, IPC Medium Density)
footprint PQFP160_L (QFP, 160-Leads, Body 28 x 28mm, Pitch 0.65mm, IPC High Density)
footprint PQFP160_M (QFP, 160-Leads, Body 28 x 28mm, Pitch 0.65mm, IPC Low Density)
3D model OR2T04A-PQFP160 (160-Pin Quad Flat Pack 0.65 mm Pitch)
pins: 1 VDD (power), 2 VSS (power), 3 PL1D (io), 4 PL1C/A0 (io), 5 PL1B (io), 6 PL1A/A1 (io), 7 PL2D/A2 (io), 8 PL2C (io), 9 PL2A/A3 (io), 10 PL3D (io), 11 PL3C (io), 12 PL3A/A4 (io), 13 PL4D/A5 (io), 14 PL4C (io), 15 PL4A/A6 (io), 16 VSS (power), 17 PL5D (io), 18 PL5C (io), 19 PL5A/A7 (io), 20 VDD (power), 21 PL6D (io), 22 VDD5 (power), 23 PL6A/A8 (io), 24 VSS (power), 25 PL7D/A9 (io), 26 PL7B (io), 27 PL7A/A10 (io), 28 PL8D (io), 29 PL8C (io), 30 PL8A/A11 (io), 31 PL9D/A12 (io), 32 PL9C (io), 33 PL9B (io), 34 PL9A/A13 (io), 35 PL10D/A14 (io), 36 PL10C (io), 37 PL10B (io), 38 PL10A/A15 (io), 39 CCLK (io), 40 VSS (power), 41 VDD (power), 42 VSS (power), 43 PB1A/A16 (io), 44 PB1B (io), 45 PB1C (io), 46 PB1D/A17 (io), 47 PB2A (io), 48 PB2B (io), 49 PB2C (io), 50 PB2D (io), 51 VDD (power), 52 PB3A (io), 53 PB3D (io), 54 PB4A (io), 55 PB4C (io), 56 PB4D (io), 57 PB5A (io), 58 PB5C (io), 59 PB5D (io), 60 VSS (power), 61 PB6A (io), 62 PB6C (io), 63 PB6D (io), 64 VDD5 (power), 65 PB7D (io), 66 PB8A/HDC (io), 67 PB8C (io), 68 PB8D (io), 69 VDD (power), 70 PB9A/~{LDC} (io), 71 PB9B (io), 72 PB9C (io), 73 PB9D (io), 74 PB10A/~{INIT} (io), 75 PB10B (io), 76 PB10C (io), 77 PB10D (io), 78 VSS (power), 79 DONE (io), 80 VDD (power), 81 VSS (power), 82 ~{RESET} (in), 83 ~{PRGM} (in), 84 PR10A/M0 (io), 85 PR10B (io), 86 PR10C (io), 87 PR10D (io), 88 PR9A/M1 (io), 89 PR9B (io), 90 PR9C (io), 91 PR9D (io), 92 PR8A/M2 (io), 93 PR8B (io), 94 PR8D (io), 95 PR7A/M3 (io), 96 PR7D (io), 97 VSS (power), 98 PR6A (io), 99 PR6C (io), 100 PR6D (io), 101 VDD (power), 102 PR5A (io), 103 PR5C (io), 104 PR5D (io), 105 VSS (power), 106 VDD5 (power), 107 PR4C (io), 108 PR4D (io), 109 PR3A/CS1 (io), 110 PR3B (io), 111 PR3D (io), 112 PR2A/~{CS0} (io), 113 PR2C (io), 114 PR2D (io), 115 PR1A/~{RD} (io), 116 PR1B (io), 117 PR1C (io), 118 PR1D/~{WR} (io), 119 VSS (power), 120 ~{RD_CFG} (in), 121 VDD (power), 122 VSS (power), 123 PT10D (io), 124 PT10C/RDY/RCLK (io), 125 PT10B (io), 126 PT10A (io), 127 PT9D/D7 (io), 128 PT9C (io), 129 PT9B (io), 130 PT9A/D6 (io), 131 VDD (power), 132 PT8D (io), 133 PT8A/D5 (io), 134 PT7D (io), 135 PT7B (io), 136 PT7A/D4 (io), 137 PT6D (io), 138 PT6C (io), 139 PT6A/D3 (io), 140 VSS (power), 141 PT5D (io), 142 PT5C (io), 143 PT5A/D2 (io), 144 PT4D/D1 (io), 145 PT4C (io), 146 PT4A/D0/DIN (io), 147 PT3D (io), 148 PT3C (io), 149 PT3A/DOUT (io), 150 VDD (power), 151 VDD5 (power), 152 PT2C (io), 153 PT2B (io), 154 PT2A/TDI (io), 155 PT1D/TMS (io), 156 PT1C (io), 157 PT1B (io), 158 PT1A/TCK (io), 159 VSS (power), 160 RD_DATA/TDO (out)

## OR2T04A5M84-D
designator U?
ORCA Series 2C FPGA: 3.3 V, Commercial Grade, 160 User I/Os.; Published: 21-May-2003; LatestRevisionDate: 13-Apr-2006; LatestRevisionNote: IPC-7351 Footprint Added.; DatasheetVersion: Jan-2003; PackageVersion: pkg_32, Aug-2005; PackageReference: PLCC84; Publisher: Altium Limited; PackageDescription: 84-Pin Leaded Chip Carrier 1.27 mm Pitch; Code_IPC: PLCC-84; ComponentLink1Description: Manufacturer Link; ComponentLink1URL: http://www.latticesemi.com/products/fpga/orca/orca2/index.cfm; ComponentLink2Description: Datasheet; ComponentLink2URL: http://www.latticesemi.com/lit/docs/datasheets/fpga/ds99-094fpga.pdf; ComponentLink3Description: Lattice Login; ComponentLink3URL: http://www.latticesemi.com/account/login.cfm
footprint PLCC84_N (Leaded Chip Carrier, 84-Leads, Body 29.3x29.3mm, Pitch 1.27mm, IPC Medium Density)
footprint PLCC84_L (Leaded Chip Carrier, 84-Leads, Body 29.3x29.3mm, Pitch 1.27mm, IPC High Density)
footprint PLCC84_M (Leaded Chip Carrier, 84-Leads, Body 29.3x29.3mm, Pitch 1.27mm, IPC Low Density)
3D model OR2T04A-PLCC84 (84-Pin Leaded Chip Carrier 1.27 mm Pitch)
pins: 1 VSS (power), 2 PT5A/D2 (io), 3 VSS (power), 4 PT4D/D1 (io), 5 PT4A/D0/DIN (io), 6 PT3A/DOUT (io), 7 VDD5 (power), 8 PT2A/TDI (io), 9 PT1D/TMS (io), 10 PT1A/TCK (io), 11 RD_DATA/TDO (out), 12 VDD (power), 13 VSS (power), 14 PL1C/A0 (io), 15 PL1A/A1 (io), 16 PL2D/A2 (io), 17 PL2A/A3 (io), 18 PL3A/A4 (io), 19 PL4D/A5 (io), 20 PL4A/A6 (io), 21 PL5A/A7 (io), 22 VDD (power), 23 PL6A/A8 (io), 24 VSS (power), 25 PL7D/A9 (io), 26 PL7A/A10 (io), 27 PL8A/A11 (io), 28 PL9D/A12 (io), 29 PL9A/A13 (io), 30 PL10D/A14 (io), 31 PL10A/A15 (io), 32 CCLK (io), 33 VDD (power), 34 VSS (power), 35 PB1A/A16 (io), 36 PB1D/A17 (io), 37 PB2A (io), 38 PB2D (io), 39 PB3A (io), 40 PB4A (io), 41 PB4D (io), 42 PB5A (io), 43 VSS (power), 44 PB6A (io), 45 VSS (power), 46 VDD5 (power), 47 PB7D (io), 48 PB8A/HDC (io), 49 PB9A/~{LDC} (io), 50 PB9D (io), 51 PB10A/~{INIT} (io), 52 PB10D (io), 53 DONE (io), 54 ~{RESET} (in), 55 ~{PRGM} (in), 56 PR10A/M0 (io), 57 PR10D (io), 58 PR9A/M1 (io), 59 PR9D (io), 60 PR8A/M2 (io), 61 PR7A/M3 (io), 62 PR7D (io), 63 PR6A (io), 64 VDD (power), 65 PR5A (io), 66 VSS (power), 67 PR4A (io), 68 PR4D (io), 69 PR3A/CS1 (io), 70 PR2A/~{CS0} (io), 71 PR2D (io), 72 PR1A/~{RD} (io), 73 PR1D/~{WR} (io), 74 ~{RD_CFG} (in), 75 VDD (power), 76 VSS (power), 77 PT10C/RDY/RCLK (io), 78 PT9D/D7 (io), 79 PT9C (io), 80 PT9A/D6 (io), 81 PT8A/D5 (io), 82 PT7D (io), 83 PT7A/D4 (io), 84 PT6A/D3 (io)

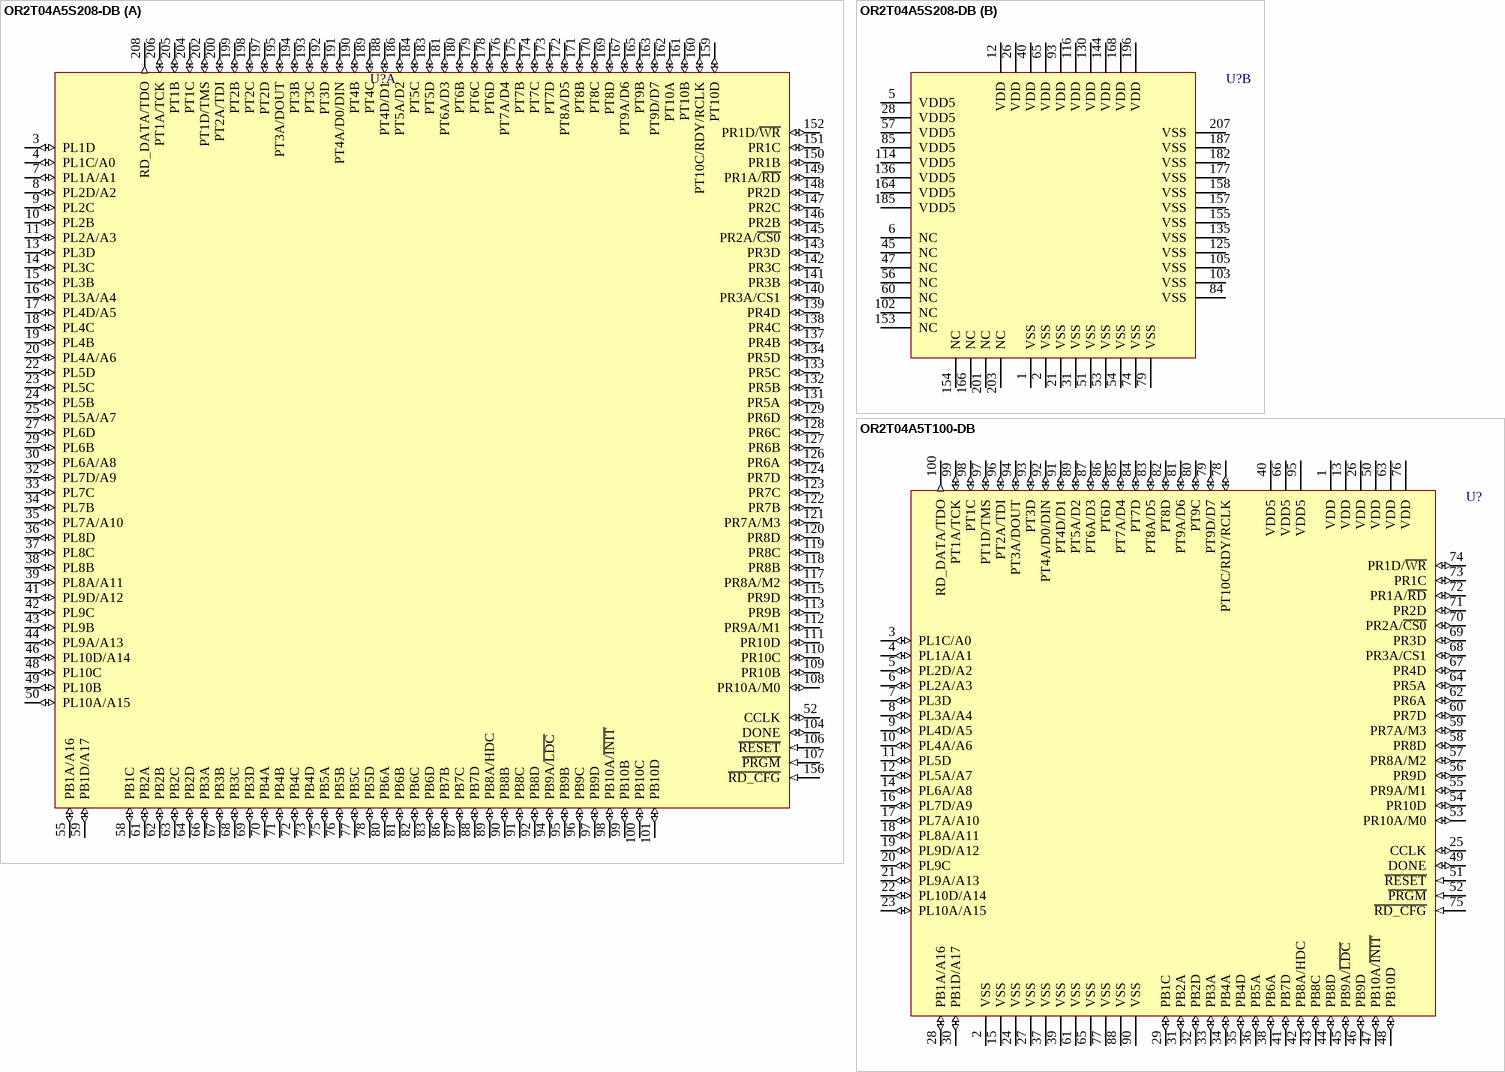
[diagram p87: symbols OR2T04A5S208-DB to OR2T04A5T100-DB]

## OR2T04A5S208-DB
designator U?
ORCA Series 2C FPGA: 3.3 V, Commercial Grade, 160 User I/Os.; Published: 21-May-2003; LatestRevisionDate: 13-Apr-2006; LatestRevisionNote: IPC-7351 Footprint Added.; DatasheetVersion: Jan-2003; PackageVersion: pkg_32, Aug-2005; PackageReference: PQFP208; Publisher: Altium Limited; PackageDescription: 208-Pin Plastic Quad Flat Pack (PQFP208); Code_JEDEC: MO-143-FAI; ComponentLink1Description: Manufacturer Link; ComponentLink1URL: http://www.latticesemi.com/products/fpga/orca/orca2/index.cfm; ComponentLink2Description: Datasheet; ComponentLink2URL: http://www.latticesemi.com/lit/docs/datasheets/fpga/ds99-094fpga.pdf; ComponentLink3Description: Lattice Login; ComponentLink3URL: http://www.latticesemi.com/account/login.cfm
footprint PQFP208_N (Shrink QFP, 208-Leads, Body 28x28mm, Pitch 0.5mm, IPC Medium Density)
footprint PQFP208_L (Shrink QFP, 208-Leads, Body 28x28mm, Pitch 0.5mm, IPC High Density)
footprint PQFP208_M (Shrink QFP, 208-Leads, Body 28x28mm, Pitch 0.5mm, IPC Low Density)
3D model OR2T04A-PQFP208 (208-Pin Plastic Quad Flat Pack (PQFP208))
part A pins: 3 PL1D (io), 4 PL1C/A0 (io), 7 PL1A/A1 (io), 8 PL2D/A2 (io), 9 PL2C (io), 10 PL2B (io), 11 PL2A/A3 (io), 13 PL3D (io), 14 PL3C (io), 15 PL3B (io), 16 PL3A/A4 (io), 17 PL4D/A5 (io), 18 PL4C (io), 19 PL4B (io), 20 PL4A/A6 (io), 22 PL5D (io), 23 PL5C (io), 24 PL5B (io), 25 PL5A/A7 (io), 27 PL6D (io), 29 PL6B (io), 30 PL6A/A8 (io), 32 PL7D/A9 (io), 33 PL7C (io), 34 PL7B (io), 35 PL7A/A10 (io), 36 PL8D (io), 37 PL8C (io), 38 PL8B (io), 39 PL8A/A11 (io), 41 PL9D/A12 (io), 42 PL9C (io), 43 PL9B (io), 44 PL9A/A13 (io), 46 PL10D/A14 (io), 48 PL10C (io), 49 PL10B (io), 50 PL10A/A15 (io), 52 CCLK (io), 55 PB1A/A16 (io), 58 PB1C (io), 59 PB1D/A17 (io), 61 PB2A (io), 62 PB2B (io), 63 PB2C (io), 64 PB2D (io), 66 PB3A (io), 67 PB3B (io), 68 PB3C (io), 69 PB3D (io), 70 PB4A (io), 71 PB4B (io), 72 PB4C (io), 73 PB4D (io), 75 PB5A (io), 76 PB5B (io), 77 PB5C (io), 78 PB5D (io), 80 PB6A (io), 81 PB6B (io), 82 PB6C (io), 83 PB6D (io), 86 PB7B (io), 87 PB7C (io), 88 PB7D (io), 89 PB8A/HDC (io), 90 PB8B (io), 91 PB8C (io), 92 PB8D (io), 94 PB9A/~{LDC} (io), 95 PB9B (io), 96 PB9C (io), 97 PB9D (io), 98 PB10A/~{INIT} (io), 99 PB10B (io), 100 PB10C (io), 101 PB10D (io), 104 DONE (io), 106 ~{RESET} (in), 107 ~{PRGM} (in), 108 PR10A/M0 (io), 109 PR10B (io), 110 PR10C (io), 111 PR10D (io), 112 PR9A/M1 (io), 113 PR9B (io), 115 PR9D (io), 117 PR8A/M2 (io), 118 PR8B (io), 119 PR8C (io), 120 PR8D (io), 121 PR7A/M3 (io), 122 PR7B (io), 123 PR7C (io), 124 PR7D (io), 126 PR6A (io), 127 PR6B (io), 128 PR6C (io), 129 PR6D (io), 131 PR5A (io), 132 PR5B (io), 133 PR5C (io), 134 PR5D (io), 137 PR4B (io), 138 PR4C (io), 139 PR4D (io), 140 PR3A/CS1 (io), 141 PR3B (io), 142 PR3C (io), 143 PR3D (io), 145 PR2A/~{CS0} (io), 146 PR2B (io), 147 PR2C (io), 148 PR2D (io), 149 PR1A/~{RD} (io), 150 PR1B (io), 151 PR1C (io), 152 PR1D/~{WR} (io), 156 ~{RD_CFG} (in), 159 PT10D (io), 160 PT10C/RDY/RCLK (io), 161 PT10B (io), 162 PT10A (io), 163 PT9D/D7 (io), 165 PT9B (io), 167 PT9A/D6 (io), 169 PT8D (io), 170 PT8C (io), 171 PT8B (io), 172 PT8A/D5 (io), 173 PT7D (io), 174 PT7C (io), 175 PT7B (io), 176 PT7A/D4 (io), 178 PT6D (io), 179 PT6C (io), 180 PT6B (io), 181 PT6A/D3 (io), 183 PT5D (io), 184 PT5C (io), 186 PT5A/D2 (io), 188 PT4D/D1 (io), 189 PT4C (io), 190 PT4B (io), 191 PT4A/D0/DIN (io), 192 PT3D (io), 193 PT3C (io), 194 PT3B (io), 195 PT3A/DOUT (io), 197 PT2D (io), 198 PT2C (io), 199 PT2B (io), 200 PT2A/TDI (io), 202 PT1D/TMS (io), 204 PT1C (io), 205 PT1B (io), 206 PT1A/TCK (io), 208 RD_DATA/TDO (out)
part B pins: 1 VSS (power), 2 VSS (power), 5 VDD5 (power), 6 NC, 12 VDD (power), 21 VSS (power), 26 VDD (power), 28 VDD5 (power), 31 VSS (power), 40 VDD (power), 45 NC, 47 NC, 51 VSS (power), 53 VSS (power), 54 VSS (power), 56 NC, 57 VDD5 (power), 60 NC, 65 VDD (power), 74 VSS (power), 79 VSS (power), 84 VSS (power), 85 VDD5 (power), 93 VDD (power), 102 NC, 103 VSS (power), 105 VSS (power), 114 VDD5 (power), 116 VDD (power), 125 VSS (power), 130 VDD (power), 135 VSS (power), 136 VDD5 (power), 144 VDD (power), 153 NC, 154 NC, 155 VSS (power), 157 VSS (power), 158 VSS (power), 164 VDD5 (power), 166 NC, 168 VDD (power), 177 VSS (power), 182 VSS (power), 185 VDD5 (power), 187 VSS (power), 196 VDD (power), 201 NC, 203 NC, 207 VSS (power)

## OR2T04A5T100-DB
designator U?
ORCA Series 2C FPGA: 3.3 V, Commercial Grade, 160 User I/Os.; Published: 21-May-2003; LatestRevisionDate: 13-Apr-2006; LatestRevisionNote: IPC-7351 Footprint Added.; DatasheetVersion: Jan-2003; PackageVersion: pkg_32, Aug-2005; PackageReference: TQFP100; Publisher: Altium Limited; PackageDescription: 100-Pin Thin Quad Flat Pack (TQFP100); Code_JEDEC: MS-026-BED; ComponentLink1Description: Manufacturer Link; ComponentLink1URL: http://www.latticesemi.com/products/fpga/orca/orca2/index.cfm; ComponentLink2Description: Datasheet; ComponentLink2URL: http://www.latticesemi.com/lit/docs/datasheets/fpga/ds99-094fpga.pdf; ComponentLink3Description: Lattice Login; ComponentLink3URL: http://www.latticesemi.com/account/login.cfm
footprint TQFP100_N (Thin QFP, 100-Leads, Body 14x14mm, Pitch 0.5mm, IPC Medium Density)
footprint TQFP100_L (Thin QFP, 100-Leads, Body 14x14mm, Pitch 0.5mm, IPC High Density)
footprint TQFP100_M (Thin QFP, 100-Leads, Body 14x14mm, Pitch 0.5mm, IPC Low Density)
3D model OR2T04A-TQFP100 (100-Pin Thin Quad Flat Pack (TQFP100))
pins: 1 VDD (power), 2 VSS (power), 3 PL1C/A0 (io), 4 PL1A/A1 (io), 5 PL2D/A2 (io), 6 PL2A/A3 (io), 7 PL3D (io), 8 PL3A/A4 (io), 9 PL4D/A5 (io), 10 PL4A/A6 (io), 11 PL5D (io), 12 PL5A/A7 (io), 13 VDD (power), 14 PL6A/A8 (io), 15 VSS (power), 16 PL7D/A9 (io), 17 PL7A/A10 (io), 18 PL8A/A11 (io), 19 PL9D/A12 (io), 20 PL9C (io), 21 PL9A/A13 (io), 22 PL10D/A14 (io), 23 PL10A/A15 (io), 24 VSS (power), 25 CCLK (io), 26 VDD (power), 27 VSS (power), 28 PB1A/A16 (io), 29 PB1C (io), 30 PB1D/A17 (io), 31 PB2A (io), 32 PB2D (io), 33 PB3A (io), 34 PB4A (io), 35 PB4D (io), 36 PB5A (io), 37 VSS (power), 38 PB6A (io), 39 VSS (power), 40 VDD5 (power), 41 PB7D (io), 42 PB8A/HDC (io), 43 PB8C (io), 44 PB8D (io), 45 PB9A/~{LDC} (io), 46 PB9D (io), 47 PB10A/~{INIT} (io), 48 PB10D (io), 49 DONE (io), 50 VDD (power), 51 ~{RESET} (in), 52 ~{PRGM} (in), 53 PR10A/M0 (io), 54 PR10D (io), 55 PR9A/M1 (io), 56 PR9D (io), 57 PR8A/M2 (io), 58 PR8D (io), 59 PR7A/M3 (io), 60 PR7D (io), 61 VSS (power), 62 PR6A (io), 63 VDD (power), 64 PR5A (io), 65 VSS (power), 66 VDD5 (power), 67 PR4D (io), 68 PR3A/CS1 (io), 69 PR3D (io), 70 PR2A/~{CS0} (io), 71 PR2D (io), 72 PR1A/~{RD} (io), 73 PR1C (io), 74 PR1D/~{WR} (io), 75 ~{RD_CFG} (in), 76 VDD (power), 77 VSS (power), 78 PT10C/RDY/RCLK (io), 79 PT9D/D7 (io), 80 PT9C (io), 81 PT9A/D6 (io), 82 PT8D (io), 83 PT8A/D5 (io), 84 PT7D (io), 85 PT7A/D4 (io), 86 PT6D (io), 87 PT6A/D3 (io), 88 VSS (power), 89 PT5A/D2 (io), 90 VSS (power), 91 PT4D/D1 (io), 92 PT4A/D0/DIN (io), 93 PT3D (io), 94 PT3A/DOUT (io), 95 VDD5 (power), 96 PT2A/TDI (io), 97 PT1D/TMS (io), 98 PT1C (io), 99 PT1A/TCK (io), 100 RD_DATA/TDO (out)

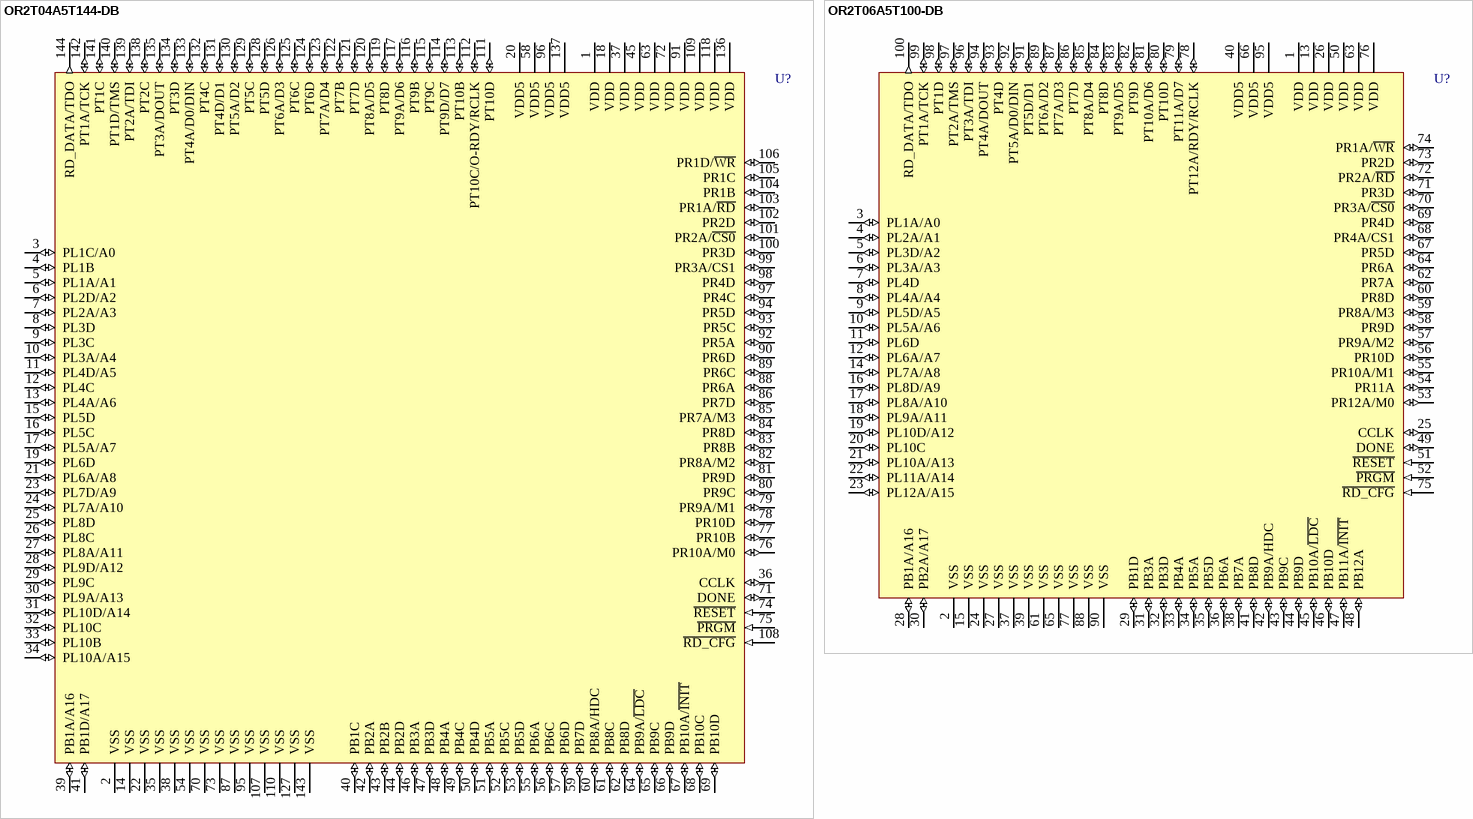
[diagram p88: symbols OR2T04A5T144-DB to OR2T06A5T100-DB]

## OR2T04A5T144-DB
designator U?
ORCA Series 2C FPGA: 3.3 V, Commercial Grade, 160 User I/Os.; Published: 21-May-2003; LatestRevisionDate: 13-Apr-2006; LatestRevisionNote: IPC-7351 Footprint Added.; DatasheetVersion: Jan-2003; PackageVersion: pkg_32, Aug-2005; PackageReference: TQFP144; Publisher: Altium Limited; PackageDescription: 144-Pin Thin Quad Flat Pack (TQFP144); Code_JEDEC: MS-026-BFB; ComponentLink1Description: Manufacturer Link; ComponentLink1URL: http://www.latticesemi.com/products/fpga/orca/orca2/index.cfm; ComponentLink2Description: Datasheet; ComponentLink2URL: http://www.latticesemi.com/lit/docs/datasheets/fpga/ds99-094fpga.pdf; ComponentLink3Description: Lattice Login; ComponentLink3URL: http://www.latticesemi.com/account/login.cfm
footprint TQFP144_N (Thin QFP, 144-Leads, Body 20x20mm, Pitch 0.5mm, IPC Medium Density)
footprint TQFP144_L (Thin QFP, 144-Leads, Body 20x20mm, Pitch 0.5mm, IPC High Density)
footprint TQFP144_M (Thin QFP, 144-Leads, Body 20x20mm, Pitch 0.5mm, IPC Low Density)
3D model OR2T04A-TQFP144 (144-Pin Thin Quad Flat Pack (TQFP144))
pins: 1 VDD (power), 2 VSS (power), 3 PL1C/A0 (io), 4 PL1B (io), 5 PL1A/A1 (io), 6 PL2D/A2 (io), 7 PL2A/A3 (io), 8 PL3D (io), 9 PL3C (io), 10 PL3A/A4 (io), 11 PL4D/A5 (io), 12 PL4C (io), 13 PL4A/A6 (io), 14 VSS (power), 15 PL5D (io), 16 PL5C (io), 17 PL5A/A7 (io), 18 VDD (power), 19 PL6D (io), 20 VDD5 (power), 21 PL6A/A8 (io), 22 VSS (power), 23 PL7D/A9 (io), 24 PL7A/A10 (io), 25 PL8D (io), 26 PL8C (io), 27 PL8A/A11 (io), 28 PL9D/A12 (io), 29 PL9C (io), 30 PL9A/A13 (io), 31 PL10D/A14 (io), 32 PL10C (io), 33 PL10B (io), 34 PL10A/A15 (io), 35 VSS (power), 36 CCLK (io), 37 VDD (power), 38 VSS (power), 39 PB1A/A16 (io), 40 PB1C (io), 41 PB1D/A17 (io), 42 PB2A (io), 43 PB2B (io), 44 PB2D (io), 45 VDD (power), 46 PB3A (io), 47 PB3D (io), 48 PB4A (io), 49 PB4C (io), 50 PB4D (io), 51 PB5A (io), 52 PB5C (io), 53 PB5D (io), 54 VSS (power), 55 PB6A (io), 56 PB6C (io), 57 PB6D (io), 58 VDD5 (power), 59 PB7D (io), 60 PB8A/HDC (io), 61 PB8C (io), 62 PB8D (io), 63 VDD (power), 64 PB9A/~{LDC} (io), 65 PB9C (io), 66 PB9D (io), 67 PB10A/~{INIT} (io), 68 PB10C (io), 69 PB10D (io), 70 VSS (power), 71 DONE (io), 72 VDD (power), 73 VSS (power), 74 ~{RESET} (in), 75 ~{PRGM} (in), 76 PR10A/M0 (io), 77 PR10B (io), 78 PR10D (io), 79 PR9A/M1 (io), 80 PR9C (io), 81 PR9D (io), 82 PR8A/M2 (io), 83 PR8B (io), 84 PR8D (io), 85 PR7A/M3 (io), 86 PR7D (io), 87 VSS (power), 88 PR6A (io), 89 PR6C (io), 90 PR6D (io), 91 VDD (power), 92 PR5A (io), 93 PR5C (io), 94 PR5D (io), 95 VSS (power), 96 VDD5 (power), 97 PR4C (io), 98 PR4D (io), 99 PR3A/CS1 (io), 100 PR3D (io), 101 PR2A/~{CS0} (io), 102 PR2D (io), 103 PR1A/~{RD} (io), 104 PR1B (io), 105 PR1C (io), 106 PR1D/~{WR} (io), 107 VSS (power), 108 ~{RD_CFG} (in), 109 VDD (power), 110 VSS (power), 111 PT10D (io), 112 PT10C/O-RDY/RCLK (io), 113 PT10B (io), 114 PT9D/D7 (io), 115 PT9C (io), 116 PT9B (io), 117 PT9A/D6 (io), 118 VDD (power), 119 PT8D (io), 120 PT8A/D5 (io), 121 PT7D (io), 122 PT7B (io), 123 PT7A/D4 (io), 124 PT6D (io), 125 PT6C (io), 126 PT6A/D3 (io), 127 VSS (power), 128 PT5D (io), 129 PT5C (io), 130 PT5A/D2 (io), 131 PT4D/D1 (io), 132 PT4C (io), 133 PT4A/D0/DIN (io), 134 PT3D (io), 135 PT3A/DOUT (io), 136 VDD (power), 137 VDD5 (power), 138 PT2C (io), 139 PT2A/TDI (io), 140 PT1D/TMS (io), 141 PT1C (io), 142 PT1A/TCK (io), 143 VSS (power), 144 RD_DATA/TDO (out)

## OR2T06A5T100-DB
designator U?
ORCA Series 2C FPGA: 3.3 V, Commercial Grade, 192 User I/Os.; Published: 21-May-2003; LatestRevisionDate: 13-Apr-2006; LatestRevisionNote: IPC-7351 Footprint Added.; DatasheetVersion: Jan-2003; PackageVersion: pkg_32, Aug-2005; PackageReference: TQFP100; Publisher: Altium Limited; PackageDescription: 100-Pin Thin Quad Flat Pack (TQFP100); Code_JEDEC: MS-026-BED; ComponentLink1Description: Manufacturer Link; ComponentLink1URL: http://www.latticesemi.com/products/fpga/orca/orca2/index.cfm; ComponentLink2Description: Datasheet; ComponentLink2URL: http://www.latticesemi.com/lit/docs/datasheets/fpga/ds99-094fpga.pdf; ComponentLink3Description: Lattice Login; ComponentLink3URL: http://www.latticesemi.com/account/login.cfm
footprint TQFP100_N (Thin QFP, 100-Leads, Body 14x14mm, Pitch 0.5mm, IPC Medium Density)
footprint TQFP100_L (Thin QFP, 100-Leads, Body 14x14mm, Pitch 0.5mm, IPC High Density)
footprint TQFP100_M (Thin QFP, 100-Leads, Body 14x14mm, Pitch 0.5mm, IPC Low Density)
3D model OR2T06A-TQFP100 (100-Pin Thin Quad Flat Pack (TQFP100))
pins: 1 VDD (power), 2 VSS (power), 3 PL1A/A0 (io), 4 PL2A/A1 (io), 5 PL3D/A2 (io), 6 PL3A/A3 (io), 7 PL4D (io), 8 PL4A/A4 (io), 9 PL5D/A5 (io), 10 PL5A/A6 (io), 11 PL6D (io), 12 PL6A/A7 (io), 13 VDD (power), 14 PL7A/A8 (io), 15 VSS (power), 16 PL8D/A9 (io), 17 PL8A/A10 (io), 18 PL9A/A11 (io), 19 PL10D/A12 (io), 20 PL10C (io), 21 PL10A/A13 (io), 22 PL11A/A14 (io), 23 PL12A/A15 (io), 24 VSS (power), 25 CCLK (io), 26 VDD (power), 27 VSS (power), 28 PB1A/A16 (io), 29 PB1D (io), 30 PB2A/A17 (io), 31 PB3A (io), 32 PB3D (io), 33 PB4A (io), 34 PB5A (io), 35 PB5D (io), 36 PB6A (io), 37 VSS (power), 38 PB7A (io), 39 VSS (power), 40 VDD5 (power), 41 PB8D (io), 42 PB9A/HDC (io), 43 PB9C (io), 44 PB9D (io), 45 PB10A/~{LDC} (io), 46 PB10D (io), 47 PB11A/~{INIT} (io), 48 PB12A (io), 49 DONE (io), 50 VDD (power), 51 ~{RESET} (in), 52 ~{PRGM} (in), 53 PR12A/M0 (io), 54 PR11A (io), 55 PR10A/M1 (io), 56 PR10D (io), 57 PR9A/M2 (io), 58 PR9D (io), 59 PR8A/M3 (io), 60 PR8D (io), 61 VSS (power), 62 PR7A (io), 63 VDD (power), 64 PR6A (io), 65 VSS (power), 66 VDD5 (power), 67 PR5D (io), 68 PR4A/CS1 (io), 69 PR4D (io), 70 PR3A/~{CS0} (io), 71 PR3D (io), 72 PR2A/~{RD} (io), 73 PR2D (io), 74 PR1A/~{WR} (io), 75 ~{RD_CFG} (in), 76 VDD (power), 77 VSS (power), 78 PT12A/RDY/RCLK (io), 79 PT11A/D7 (io), 80 PT10D (io), 81 PT10A/D6 (io), 82 PT9D (io), 83 PT9A/D5 (io), 84 PT8D (io), 85 PT8A/D4 (io), 86 PT7D (io), 87 PT7A/D3 (io), 88 VSS (power), 89 PT6A/D2 (io), 90 VSS (power), 91 PT5D/D1 (io), 92 PT5A/D0/DIN (io), 93 PT4D (io), 94 PT4A/DOUT (io), 95 VDD5 (power), 96 PT3A/TDI (io), 97 PT2A/TMS (io), 98 PT1D (io), 99 PT1A/TCK (io), 100 RD_DATA/TDO (out)

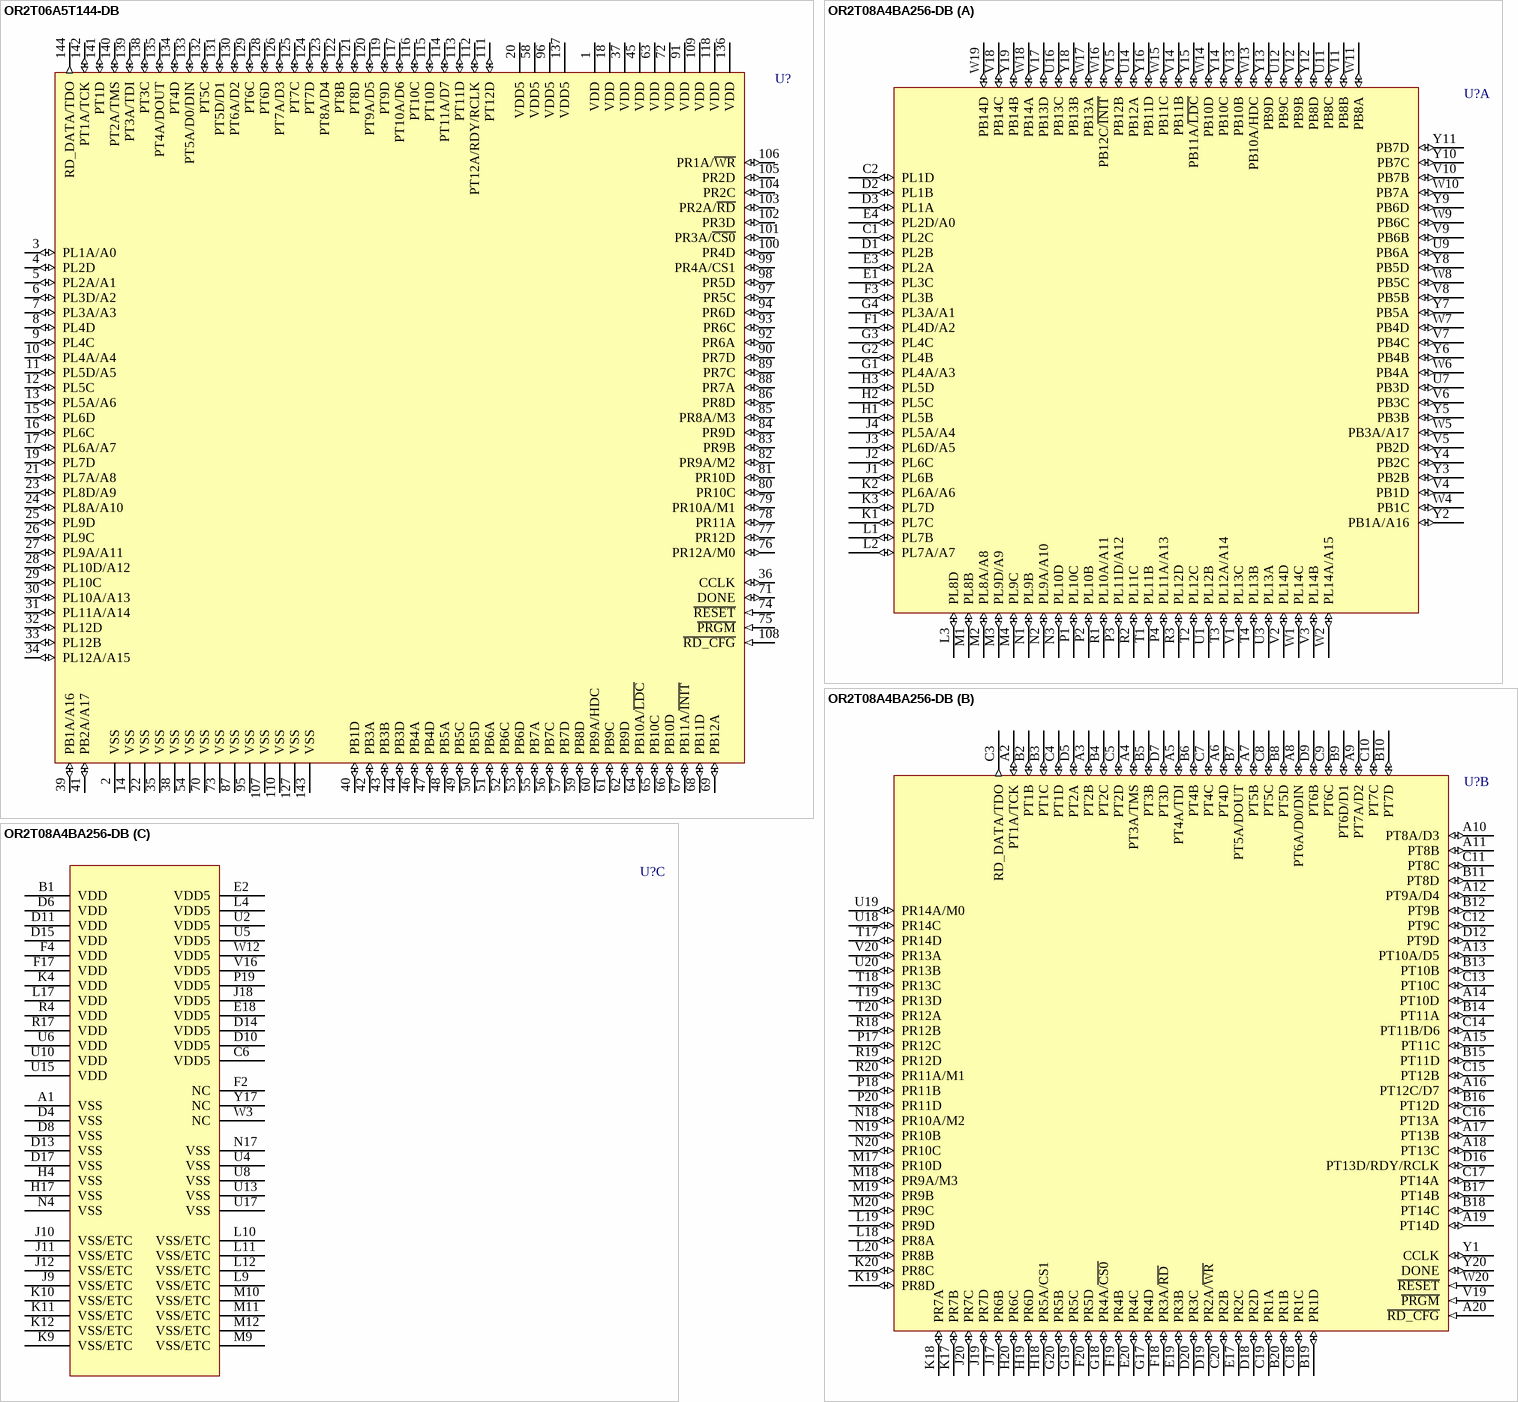
[diagram p89: symbols OR2T06A5T144-DB to OR2T08A4BA256-DB]

## OR2T06A5T144-DB
designator U?
ORCA Series 2C FPGA: 3.3 V, Industrial Grade, 192 User I/Os.; Published: 21-May-2003; LatestRevisionDate: 13-Apr-2006; LatestRevisionNote: IPC-7351 Footprint Added.; DatasheetVersion: Jan-2003; PackageVersion: pkg_32, Aug-2005; PackageReference: TQFP144; Publisher: Altium Limited; PackageDescription: 144-Pin Thin Quad Flat Pack (TQFP144); Code_JEDEC: MS-026-BFB; ComponentLink1Description: Manufacturer Link; ComponentLink1URL: http://www.latticesemi.com/products/fpga/orca/orca2/index.cfm; ComponentLink2Description: Datasheet; ComponentLink2URL: http://www.latticesemi.com/lit/docs/datasheets/fpga/ds99-094fpga.pdf; ComponentLink3Description: Lattice Login; ComponentLink3URL: http://www.latticesemi.com/account/login.cfm
footprint TQFP144_N (Thin QFP, 144-Leads, Body 20x20mm, Pitch 0.5mm, IPC Medium Density)
footprint TQFP144_L (Thin QFP, 144-Leads, Body 20x20mm, Pitch 0.5mm, IPC High Density)
footprint TQFP144_M (Thin QFP, 144-Leads, Body 20x20mm, Pitch 0.5mm, IPC Low Density)
3D model OR2T06A-TQFP144 (144-Pin Thin Quad Flat Pack (TQFP144))
pins: 1 VDD (power), 2 VSS (power), 3 PL1A/A0 (io), 4 PL2D (io), 5 PL2A/A1 (io), 6 PL3D/A2 (io), 7 PL3A/A3 (io), 8 PL4D (io), 9 PL4C (io), 10 PL4A/A4 (io), 11 PL5D/A5 (io), 12 PL5C (io), 13 PL5A/A6 (io), 14 VSS (power), 15 PL6D (io), 16 PL6C (io), 17 PL6A/A7 (io), 18 VDD (power), 19 PL7D (io), 20 VDD5 (power), 21 PL7A/A8 (io), 22 VSS (power), 23 PL8D/A9 (io), 24 PL8A/A10 (io), 25 PL9D (io), 26 PL9C (io), 27 PL9A/A11 (io), 28 PL10D/A12 (io), 29 PL10C (io), 30 PL10A/A13 (io), 31 PL11A/A14 (io), 32 PL12D (io), 33 PL12B (io), 34 PL12A/A15 (io), 35 VSS (power), 36 CCLK (io), 37 VDD (power), 38 VSS (power), 39 PB1A/A16 (io), 40 PB1D (io), 41 PB2A/A17 (io), 42 PB3A (io), 43 PB3B (io), 44 PB3D (io), 45 VDD (power), 46 PB4A (io), 47 PB4D (io), 48 PB5A (io), 49 PB5C (io), 50 PB5D (io), 51 PB6A (io), 52 PB6C (io), 53 PB6D (io), 54 VSS (power), 55 PB7A (io), 56 PB7C (io), 57 PB7D (io), 58 VDD5 (power), 59 PB8D (io), 60 PB9A/HDC (io), 61 PB9C (io), 62 PB9D (io), 63 VDD (power), 64 PB10A/~{LDC} (io), 65 PB10C (io), 66 PB10D (io), 67 PB11A/~{INIT} (io), 68 PB11D (io), 69 PB12A (io), 70 VSS (power), 71 DONE (io), 72 VDD (power), 73 VSS (power), 74 ~{RESET} (in), 75 ~{PRGM} (in), 76 PR12A/M0 (io), 77 PR12D (io), 78 PR11A (io), 79 PR10A/M1 (io), 80 PR10C (io), 81 PR10D (io), 82 PR9A/M2 (io), 83 PR9B (io), 84 PR9D (io), 85 PR8A/M3 (io), 86 PR8D (io), 87 VSS (power), 88 PR7A (io), 89 PR7C (io), 90 PR7D (io), 91 VDD (power), 92 PR6A (io), 93 PR6C (io), 94 PR6D (io), 95 VSS (power), 96 VDD5 (power), 97 PR5C (io), 98 PR5D (io), 99 PR4A/CS1 (io), 100 PR4D (io), 101 PR3A/~{CS0} (io), 102 PR3D (io), 103 PR2A/~{RD} (io), 104 PR2C (io), 105 PR2D (io), 106 PR1A/~{WR} (io), 107 VSS (power), 108 ~{RD_CFG} (in), 109 VDD (power), 110 VSS (power), 111 PT12D (io), 112 PT12A/RDY/RCLK (io), 113 PT11D (io), 114 PT11A/D7 (io), 115 PT10D (io), 116 PT10C (io), 117 PT10A/D6 (io), 118 VDD (power), 119 PT9D (io), 120 PT9A/D5 (io), 121 PT8D (io), 122 PT8B (io), 123 PT8A/D4 (io), 124 PT7D (io), 125 PT7C (io), 126 PT7A/D3 (io), 127 VSS (power), 128 PT6D (io), 129 PT6C (io), 130 PT6A/D2 (io), 131 PT5D/D1 (io), 132 PT5C (io), 133 PT5A/D0/DIN (io), 134 PT4D (io), 135 PT4A/DOUT (io), 136 VDD (power), 137 VDD5 (power), 138 PT3C (io), 139 PT3A/TDI (io), 140 PT2A/TMS (io), 141 PT1D (io), 142 PT1A/TCK (io), 143 VSS (power), 144 RD_DATA/TDO (out)

## OR2T08A4BA256-DB
designator U?
ORCA Series 2C FPGA: 3.3 V, Commercial Grade, 224 User I/Os.; PinConnectionRecommendation: Ground array of 'VSS-ETC' pins for enhanced thermal capability or leave unconnected.; Published: 21-May-2003; LatestRevisionDate: 13-Apr-2006; LatestRevisionNote: IPC-7351 Footprint Added.; DatasheetVersion: Jan-2003; PackageVersion: pkg_32, Aug-2005; PackageReference: BGA272; Publisher: Altium Limited; PackageDescription: 272-Ball Ball Grid Array (BGA272); ComponentLink1Description: Manufacturer Link; ComponentLink1URL: http://www.latticesemi.com/products/fpga/orca/orca2/index.cfm; ComponentLink2Description: Datasheet; ComponentLink2URL: http://www.latticesemi.com/lit/docs/datasheets/fpga/ds99-094fpga.pdf; ComponentLink3Description: Lattice Login; ComponentLink3URL: http://www.latticesemi.com/account/login.cfm
footprint BGA272 (BGA, 272-Leads, Body 27x27mm, Pitch 1.27mm)
3D model OR2T08A-BGA272 (272-Ball Ball Grid Array (BGA272))
part A pins: C1 PL2C (io), C2 PL1D (io), D1 PL2B (io), D2 PL1B (io), D3 PL1A (io), E1 PL3C (io), E3 PL2A (io), E4 PL2D/A0 (io), F1 PL4D/A2 (io), F3 PL3B (io), G1 PL4A/A3 (io), G2 PL4B (io), G3 PL4C (io), G4 PL3A/A1 (io), H1 PL5B (io), H2 PL5C (io), H3 PL5D (io), J1 PL6B (io), J2 PL6C (io), J3 PL6D/A5 (io), J4 PL5A/A4 (io), K1 PL7C (io), K2 PL6A/A6 (io), K3 PL7D (io), L1 PL7B (io), L2 PL7A/A7 (io), L3 PL8D (io), M1 PL8B (io), M2 PL8A/A8 (io), M3 PL9D/A9 (io), M4 PL9C (io), N1 PL9B (io), N2 PL9A/A10 (io), N3 PL10D (io), P1 PL10C (io), P2 PL10B (io), P3 PL11D/A12 (io), P4 PL11A/A13 (io), R1 PL10A/A11 (io), R2 PL11C (io), R3 PL12D (io), T1 PL11B (io), T2 PL12C (io), T3 PL12A/A14 (io), T4 PL13B (io), U1 PL12B (io), U3 PL13A (io), U7 PB3D (io), U9 PB6A (io), U11 PB8C (io), U12 PB9C (io), U14 PB12A (io), U16 PB13C (io), V1 PL13C (io), V2 PL14D (io), V3 PL14B (io), V4 PB1D (io), V5 PB2D (io), V6 PB3C (io), V7 PB4C (io), V8 PB5B (io), V9 PB6B (io), V10 PB7B (io), V11 PB8B (io), V12 PB9B (io), V13 PB10B (io), V14 PB11B (io), V15 PB12B (io), V17 PB13D (io), V18 PB14C (io), W1 PL14C (io), W2 PL14A/A15 (io), W4 PB1C (io), W5 PB3A/A17 (io), W6 PB4A (io), W7 PB4D (io), W8 PB5C (io), W9 PB6C (io), W10 PB7A (io), W11 PB8A (io), W13 PB10A/HDC (io), W14 PB10D (io), W15 PB11C (io), W16 PB12C/~{INIT} (io), W17 PB13A (io), W18 PB14A (io), W19 PB14D (io), Y2 PB1A/A16 (io), Y3 PB2B (io), Y4 PB2C (io), Y5 PB3B (io), Y6 PB4B (io), Y7 PB5A (io), Y8 PB5D (io), Y9 PB6D (io), Y10 PB7C (io), Y11 PB7D (io), Y12 PB8D (io), Y13 PB9D (io), Y14 PB10C (io), Y15 PB11A/~{LDC} (io), Y16 PB11D (io), Y18 PB13B (io), Y19 PB14B (io)
part B pins: A2 PT1A/TCK (io), A3 PT2B (io), A4 PT3A/TMS (io), A5 PT4A/TDI (io), A6 PT4D (io), A7 PT5B (io), A8 PT6A/D0/DIN (io), A9 PT7A/D2 (io), A10 PT8A/D3 (io), A11 PT8B (io), A12 PT9A/D4 (io), A13 PT10A/D5 (io), A14 PT10D (io), A15 PT11C (io), A16 PT12C/D7 (io), A17 PT13B (io), A18 PT13C (io), A19 PT14D (io), A20 ~{RD_CFG} (in), B2 PT1B (io), B3 PT1C (io), B4 PT2C (io), B5 PT3B (io), B6 PT4B (io), B7 PT5A/DOUT (io), B8 PT5D (io), B9 PT6D/D1 (io), B10 PT7D (io), B11 PT8D (io), B12 PT9B (io), B13 PT10B (io), B14 PT11A (io), B15 PT11D (io), B16 PT12D (io), B17 PT14B (io), B18 PT14C (io), B19 PR1D (io), B20 PR1B (io), C3 RD_DATA/TDO (out), C4 PT1D (io), C5 PT2D (io), C7 PT4C (io), C8 PT5C (io), C9 PT6C (io), C10 PT7C (io), C11 PT8C (io), C12 PT9C (io), C13 PT10C (io), C14 PT11B/D6 (io), C15 PT12B (io), C16 PT13A (io), C17 PT14A (io), C18 PR1C (io), C19 PR1A (io), C20 PR2B (io), D5 PT2A (io), D7 PT3D (io), D9 PT6B (io), D12 PT9D (io), D16 PT13D/RDY/RCLK (io), D18 PR2D (io), D19 PR2A/~{WR} (io), D20 PR3C (io), E17 PR2C (io), E19 PR3B (io), E20 PR4C (io), F18 PR3A/~{RD} (io), F19 PR4B (io), F20 PR5D (io), G17 PR4D (io), G18 PR4A/~{CS0} (io), G19 PR5C (io), G20 PR5B (io), H18 PR5A/CS1 (io), H19 PR6D (io), H20 PR6C (io), J17 PR6B (io), J19 PR7D (io), J20 PR7C (io), K17 PR7B (io), K18 PR7A (io), K19 PR8D (io), K20 PR8C (io), L18 PR8A (io), L19 PR9D (io), L20 PR8B (io), M17 PR10D (io), M18 PR9A/M3 (io), M19 PR9B (io), M20 PR9C (io), N18 PR10A/M2 (io), N19 PR10B (io), N20 PR10C (io), P17 PR12C (io), P18 PR11B (io), P20 PR11D (io), R18 PR12B (io), R19 PR12D (io), R20 PR11A/M1 (io), T17 PR14D (io), T18 PR13C (io), T19 PR13D (io), T20 PR12A (io), U18 PR14C (io), U19 PR14A/M0 (io), U20 PR13B (io), V19 ~{PRGM} (in), V20 PR13A (io), W20 ~{RESET} (in), Y1 CCLK (io), Y20 DONE (io)
part C pins: A1 VSS (power), B1 VDD (power), C6 VDD5 (power), D4 VSS (power), D6 VDD (power), D8 VSS (power), D10 VDD5 (power), D11 VDD (power), D13 VSS (power), D14 VDD5 (power), D15 VDD (power), D17 VSS (power), E2 VDD5 (power), E18 VDD5 (power), F2 NC, F4 VDD (power), F17 VDD (power), H4 VSS (power), H17 VSS (power), J9 VSS/ETC (power), J10 VSS/ETC (power), J11 VSS/ETC (power), J12 VSS/ETC (power), J18 VDD5 (power), K4 VDD (power), K9 VSS/ETC (power), K10 VSS/ETC (power), K11 VSS/ETC (power), K12 VSS/ETC (power), L4 VDD5 (power), L9 VSS/ETC (power), L10 VSS/ETC (power), L11 VSS/ETC (power), L12 VSS/ETC (power), L17 VDD (power), M9 VSS/ETC (power), M10 VSS/ETC (power), M11 VSS/ETC (power), M12 VSS/ETC (power), N4 VSS (power), N17 VSS (power), P19 VDD5 (power), R4 VDD (power), R17 VDD (power), U2 VDD5 (power), U4 VSS (power), U5 VDD5 (power), U6 VDD (power), U8 VSS (power), U10 VDD (power), U13 VSS (power), U15 VDD (power), U17 VSS (power), V16 VDD5 (power), W3 NC, W12 VDD5 (power), Y17 NC

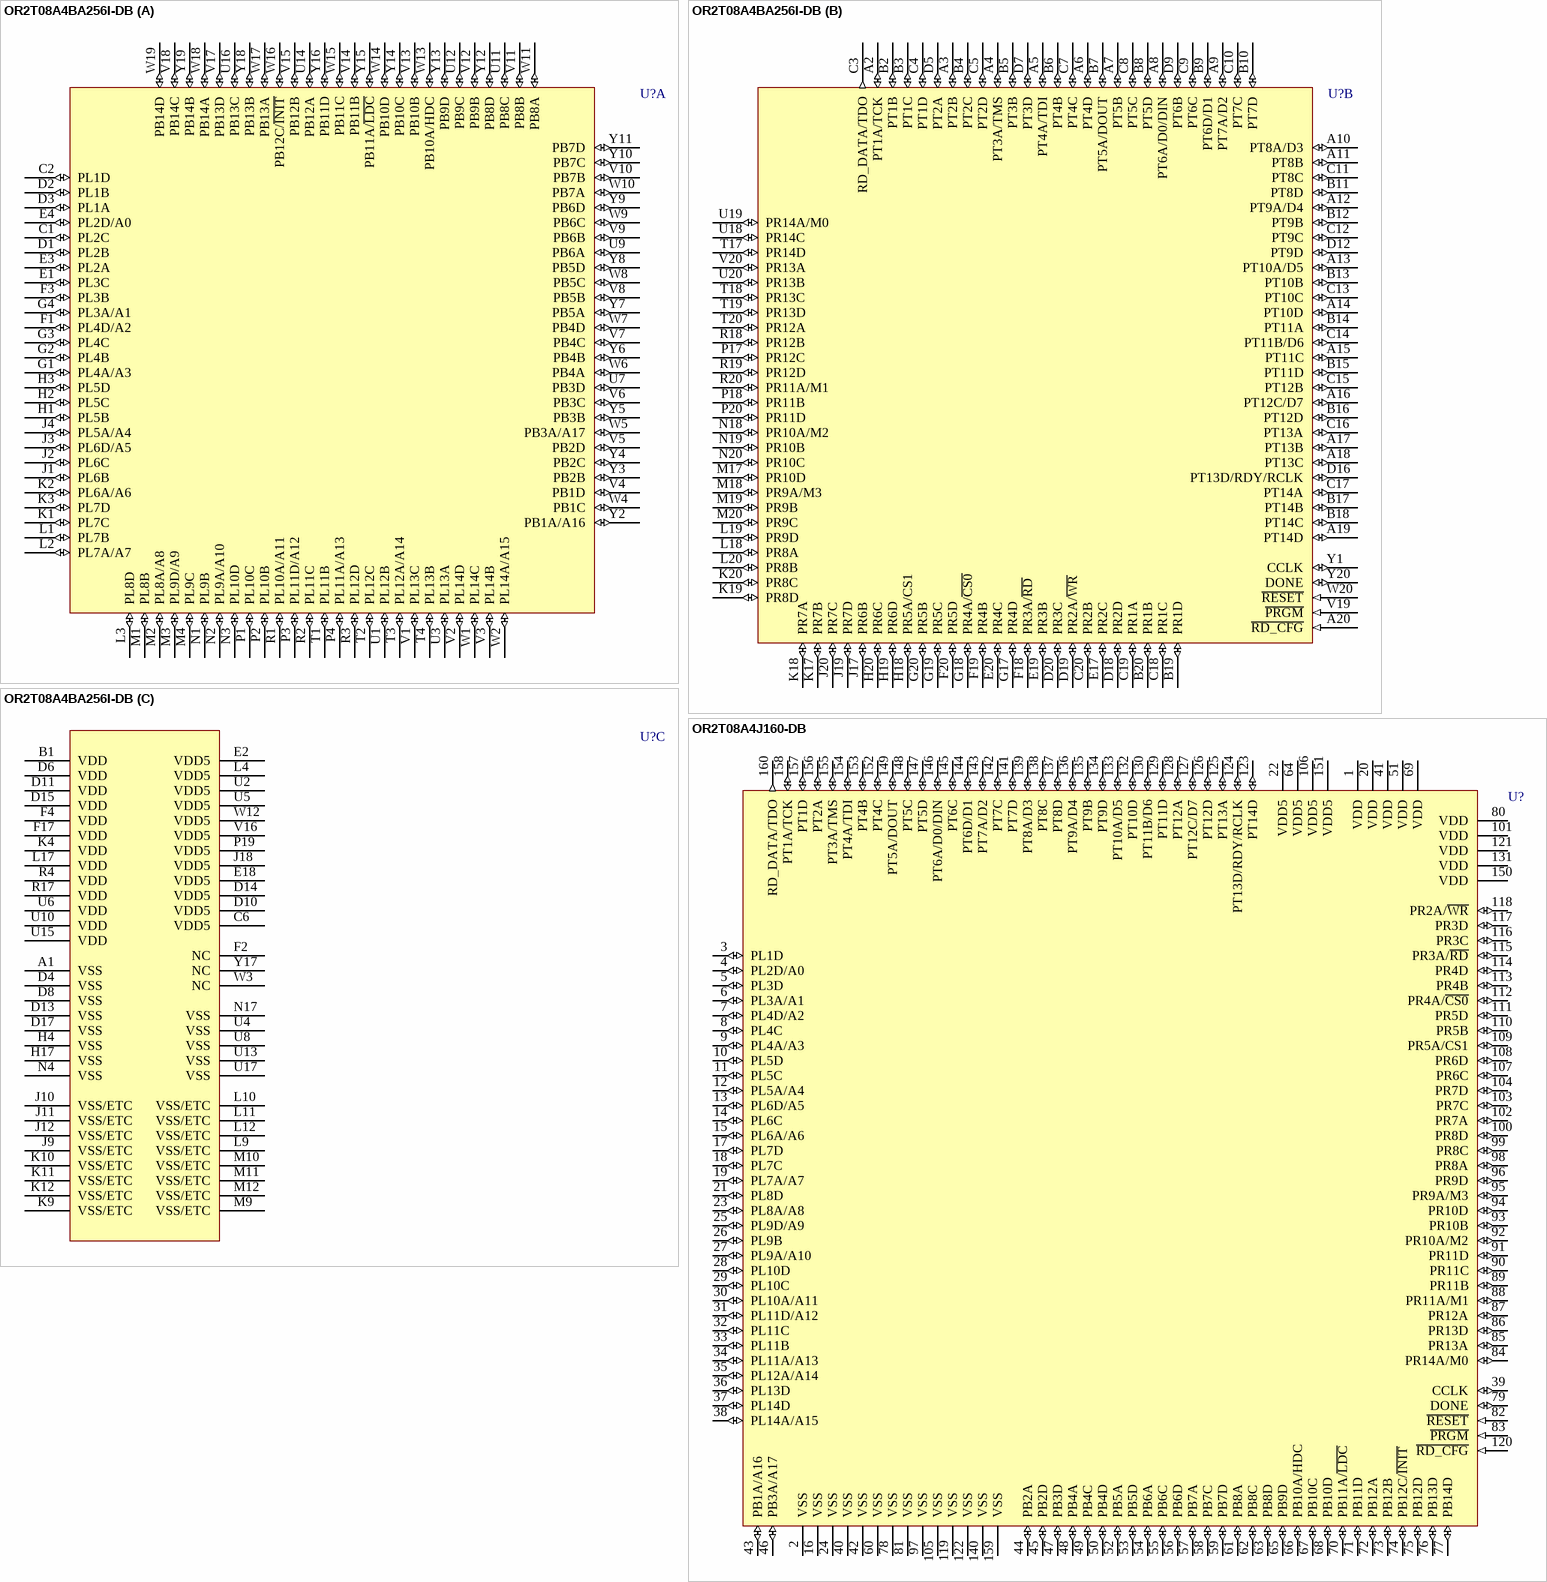
[diagram p90: symbols OR2T08A4BA256I-DB to OR2T08A4J160-DB]